# Altium schematic symbol library MCU_Microchip_PIC18.SchLib: 173 symbols (part 1 of 4)
Pins are listed as number, name and electrical type; pins without a type are passive.

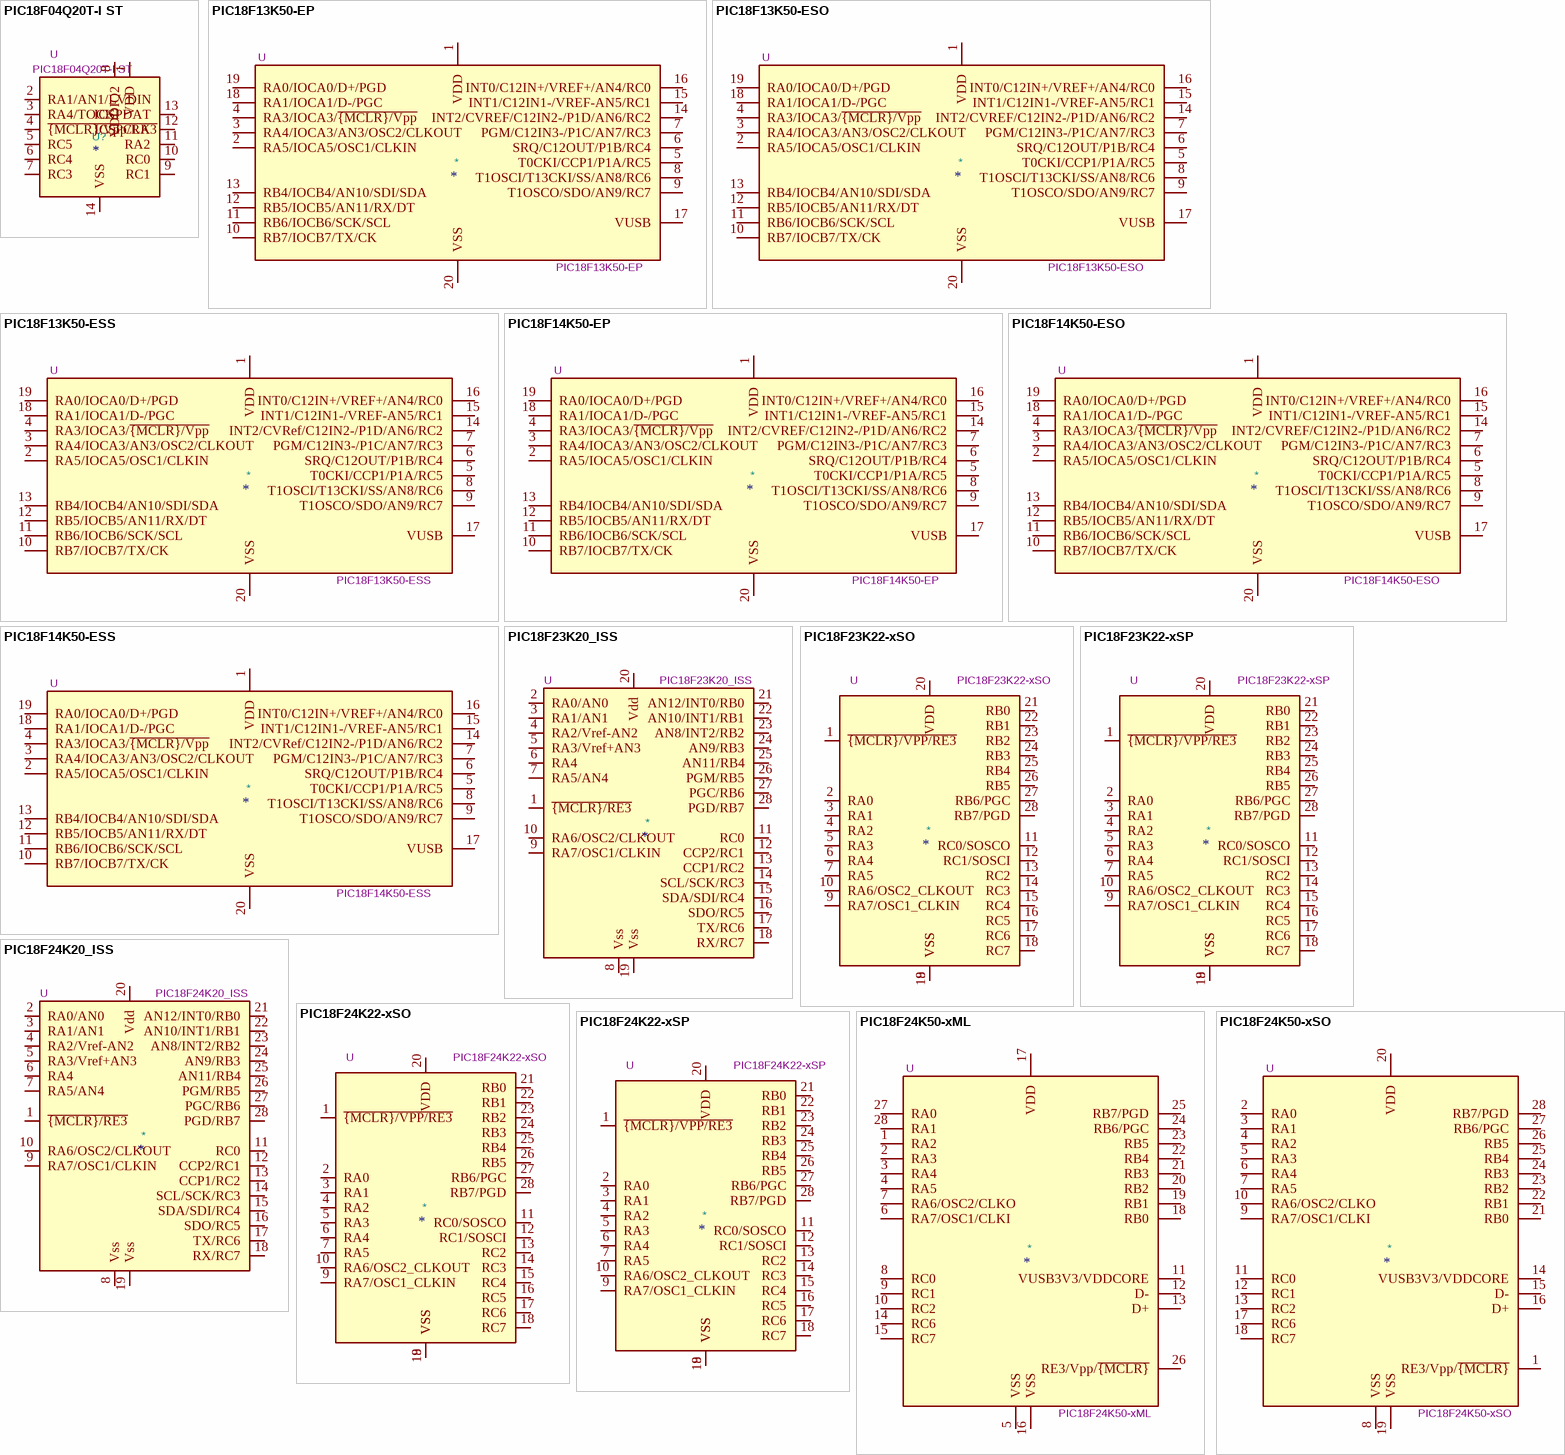
[diagram p0: symbols PIC18F04Q20T-I ST to PIC18F24K50-xSO]

## PIC18F04Q20T-I ST
designator U?  value PIC18F04Q20T-I ST  Reference: U
18-Pin Flash Microcontroller 4K Flash 256byte RAM; Manufacturer: Microchip; Manufacturer Lifecycle Status: REL; Manufacturer Part Number: PIC18F04Q20T-I/ST; ki_keywords: RAM ADC UART PWM; ki_fp_filters: SOIC*W*7.5x11.6mm*P1.27mm*; Memory Size: 16kB; Datasheet: http://ww1.microchip.com/downloads/en/DeviceDoc/39605F.pdf; Description_: 18-Pin Flash Microcontroller 4K Flash 256byte RAM; Case/Package: TSSOP; Category: Microcontrollers; Country of Assembly: Thailand; Country of Fabrication: United States of America; Country of Origin: Thailand; Export Control Classification Number (ECCN) Code: 3A991.a.2; Harmonized Tariff Schedule (HTS) Code: 8542.31.0015; HS Code: 8542.31.0015; Introduction Date: 2024-05-30; Lifecycle Status: Production; Memory Type: FLASH; Number of Pins: 14; Projected EOL Date: 2049-05-30; Supplier 1: Mouser; Supplier Part Number 1: 579-PIC18F04Q20T-IST; Supplier Packaging 1: Tape & Reel; Supplier Unit Price 1: $0.95; Supplier Location 1: US
footprint TSSOP-14_4.4x5mm_P0.65mm
pins: 1 VDD, 2 RA1/AN1/LVDIN, 3 RA4/TOCKI, 4 ~{{MCLR}/Vpp/RA3}, 5 RC5, 6 RC4, 7 RC3, 8 VDDIO2, 9 RC1, 10 RC0, 11 RA2, 12 ICSPCLK, 13 ICSPDAT, 14 VSS

## PIC18F13K50-EP
designator *  value PIC18F13K50-EP  Reference: U
8K Flash, 512 SRAM, 256 EEPROM, USB, nanoWatt XLP, DIP20; ki_keywords: Flash-Based 8bit CMOS Microcontroller XLP; ki_fp_filters: DIP*W7.62mm* PDIP*W7.62mm*; Footprint: Package_DIP:DIP-20_W7.62mm; Datasheet: http://ww1.microchip.com/downloads/en/devicedoc/41350c.pdf; Description_: 8K Flash, 512 SRAM, 256 EEPROM, USB, nanoWatt XLP, DIP20
pins: 1 VDD, 2 RA5/IOCA5/OSC1/CLKIN, 3 RA4/IOCA3/AN3/OSC2/CLKOUT, 4 RA3/IOCA3/~{{MCLR}/Vpp}, 5 T0CKI/CCP1/P1A/RC5, 6 SRQ/C12OUT/P1B/RC4, 7 PGM/C12IN3-/P1C/AN7/RC3, 8 T1OSCI/T13CKI/SS/AN8/RC6, 9 T1OSCO/SDO/AN9/RC7, 10 RB7/IOCB7/TX/CK, 11 RB6/IOCB6/SCK/SCL, 12 RB5/IOCB5/AN11/RX/DT, 13 RB4/IOCB4/AN10/SDI/SDA, 14 INT2/CVREF/C12IN2-/P1D/AN6/RC2, 15 INT1/C12IN1-/VREF-AN5/RC1, 16 INT0/C12IN+/VREF+/AN4/RC0, 17 VUSB, 18 RA1/IOCA1/D-/PGC, 19 RA0/IOCA0/D+/PGD, 20 VSS

## PIC18F13K50-ESO
designator *  value PIC18F13K50-ESO  Reference: U
8K Flash, 512 SRAM, 256 EEPROM, USB, nanoWatt XLP, SOIC20; ki_keywords: Flash-Based 8bit CMOS Microcontroller XLP; ki_fp_filters: SOIC*W*7.5x12.8mm*P1.27mm*; Footprint: Package_SO:SOIC-20W_7.5x12.8mm_P1.27mm; Datasheet: http://ww1.microchip.com/downloads/en/devicedoc/41350c.pdf; Description_: 8K Flash, 512 SRAM, 256 EEPROM, USB, nanoWatt XLP, SOIC20
pins: 1 VDD, 2 RA5/IOCA5/OSC1/CLKIN, 3 RA4/IOCA3/AN3/OSC2/CLKOUT, 4 RA3/IOCA3/~{{MCLR}/Vpp}, 5 T0CKI/CCP1/P1A/RC5, 6 SRQ/C12OUT/P1B/RC4, 7 PGM/C12IN3-/P1C/AN7/RC3, 8 T1OSCI/T13CKI/SS/AN8/RC6, 9 T1OSCO/SDO/AN9/RC7, 10 RB7/IOCB7/TX/CK, 11 RB6/IOCB6/SCK/SCL, 12 RB5/IOCB5/AN11/RX/DT, 13 RB4/IOCB4/AN10/SDI/SDA, 14 INT2/CVREF/C12IN2-/P1D/AN6/RC2, 15 INT1/C12IN1-/VREF-AN5/RC1, 16 INT0/C12IN+/VREF+/AN4/RC0, 17 VUSB, 18 RA1/IOCA1/D-/PGC, 19 RA0/IOCA0/D+/PGD, 20 VSS

## PIC18F13K50-ESS
designator *  value PIC18F13K50-ESS  Reference: U
8K Flash, 512 SRAM, 256 EEPROM, USB, nanoWatt XLP, SSOP20; ki_keywords: Flash-Based 8bit CMOS Microcontroller XLP; ki_fp_filters: SSOP*5.3x7.2mm*P0.65mm*; Footprint: Package_SO:SSOP-20_5.3x7.2mm_P0.65mm; Datasheet: http://ww1.microchip.com/downloads/en/devicedoc/41350c.pdf; Description_: 8K Flash, 512 SRAM, 256 EEPROM, USB, nanoWatt XLP, SSOP20
pins: 1 VDD, 2 RA5/IOCA5/OSC1/CLKIN, 3 RA4/IOCA3/AN3/OSC2/CLKOUT, 4 RA3/IOCA3/~{{MCLR}/Vpp}, 5 T0CKI/CCP1/P1A/RC5, 6 SRQ/C12OUT/P1B/RC4, 7 PGM/C12IN3-/P1C/AN7/RC3, 8 T1OSCI/T13CKI/SS/AN8/RC6, 9 T1OSCO/SDO/AN9/RC7, 10 RB7/IOCB7/TX/CK, 11 RB6/IOCB6/SCK/SCL, 12 RB5/IOCB5/AN11/RX/DT, 13 RB4/IOCB4/AN10/SDI/SDA, 14 INT2/CVRef/C12IN2-/P1D/AN6/RC2, 15 INT1/C12IN1-/VREF-AN5/RC1, 16 INT0/C12IN+/VREF+/AN4/RC0, 17 VUSB, 18 RA1/IOCA1/D-/PGC, 19 RA0/IOCA0/D+/PGD, 20 VSS

## PIC18F14K50-EP
designator *  value PIC18F14K50-EP  Reference: U
16K Flash, 768 SRAM, 256 EEPROM, USB, nanoWatt XLP, DIP20; ki_keywords: Flash-Based 8bit CMOS Microcontroller XLP; ki_fp_filters: DIP*W7.62mm* PDIP*W7.62mm*; Footprint: Package_DIP:DIP-20_W7.62mm; Datasheet: http://ww1.microchip.com/downloads/en/devicedoc/41350c.pdf; Description_: 16K Flash, 768 SRAM, 256 EEPROM, USB, nanoWatt XLP, DIP20
pins: 1 VDD, 2 RA5/IOCA5/OSC1/CLKIN, 3 RA4/IOCA3/AN3/OSC2/CLKOUT, 4 RA3/IOCA3/~{{MCLR}/Vpp}, 5 T0CKI/CCP1/P1A/RC5, 6 SRQ/C12OUT/P1B/RC4, 7 PGM/C12IN3-/P1C/AN7/RC3, 8 T1OSCI/T13CKI/SS/AN8/RC6, 9 T1OSCO/SDO/AN9/RC7, 10 RB7/IOCB7/TX/CK, 11 RB6/IOCB6/SCK/SCL, 12 RB5/IOCB5/AN11/RX/DT, 13 RB4/IOCB4/AN10/SDI/SDA, 14 INT2/CVREF/C12IN2-/P1D/AN6/RC2, 15 INT1/C12IN1-/VREF-AN5/RC1, 16 INT0/C12IN+/VREF+/AN4/RC0, 17 VUSB, 18 RA1/IOCA1/D-/PGC, 19 RA0/IOCA0/D+/PGD, 20 VSS

## PIC18F14K50-ESO
designator *  value PIC18F14K50-ESO  Reference: U
16K Flash, 768 SRAM, 256 EEPROM, USB, nanoWatt XLP, SOIC20; ki_keywords: Flash-Based 8bit CMOS Microcontroller XLP; ki_fp_filters: SOIC*W*7.5x12.8mm*P1.27mm*; Footprint: Package_SO:SOIC-20W_7.5x12.8mm_P1.27mm; Datasheet: http://ww1.microchip.com/downloads/en/devicedoc/41350c.pdf; Description_: 16K Flash, 768 SRAM, 256 EEPROM, USB, nanoWatt XLP, SOIC20
pins: 1 VDD, 2 RA5/IOCA5/OSC1/CLKIN, 3 RA4/IOCA3/AN3/OSC2/CLKOUT, 4 RA3/IOCA3/~{{MCLR}/Vpp}, 5 T0CKI/CCP1/P1A/RC5, 6 SRQ/C12OUT/P1B/RC4, 7 PGM/C12IN3-/P1C/AN7/RC3, 8 T1OSCI/T13CKI/SS/AN8/RC6, 9 T1OSCO/SDO/AN9/RC7, 10 RB7/IOCB7/TX/CK, 11 RB6/IOCB6/SCK/SCL, 12 RB5/IOCB5/AN11/RX/DT, 13 RB4/IOCB4/AN10/SDI/SDA, 14 INT2/CVREF/C12IN2-/P1D/AN6/RC2, 15 INT1/C12IN1-/VREF-AN5/RC1, 16 INT0/C12IN+/VREF+/AN4/RC0, 17 VUSB, 18 RA1/IOCA1/D-/PGC, 19 RA0/IOCA0/D+/PGD, 20 VSS

## PIC18F14K50-ESS
designator *  value PIC18F14K50-ESS  Reference: U
16K Flash, 768 SRAM, 256 EEPROM, USB, nanoWatt XLP, SSOP20; ki_keywords: Flash-Based 8bit CMOS Microcontroller XLP; ki_fp_filters: SSOP*5.3x7.2mm*P0.65mm*; Footprint: Package_SO:SSOP-20_5.3x7.2mm_P0.65mm; Datasheet: http://ww1.microchip.com/downloads/en/devicedoc/41350c.pdf; Description_: 16K Flash, 768 SRAM, 256 EEPROM, USB, nanoWatt XLP, SSOP20
pins: 1 VDD, 2 RA5/IOCA5/OSC1/CLKIN, 3 RA4/IOCA3/AN3/OSC2/CLKOUT, 4 RA3/IOCA3/~{{MCLR}/Vpp}, 5 T0CKI/CCP1/P1A/RC5, 6 SRQ/C12OUT/P1B/RC4, 7 PGM/C12IN3-/P1C/AN7/RC3, 8 T1OSCI/T13CKI/SS/AN8/RC6, 9 T1OSCO/SDO/AN9/RC7, 10 RB7/IOCB7/TX/CK, 11 RB6/IOCB6/SCK/SCL, 12 RB5/IOCB5/AN11/RX/DT, 13 RB4/IOCB4/AN10/SDI/SDA, 14 INT2/CVRef/C12IN2-/P1D/AN6/RC2, 15 INT1/C12IN1-/VREF-AN5/RC1, 16 INT0/C12IN+/VREF+/AN4/RC0, 17 VUSB, 18 RA1/IOCA1/D-/PGC, 19 RA0/IOCA0/D+/PGD, 20 VSS

## PIC18F23K20_ISS
designator *  value PIC18F23K20_ISS  Reference: U
8K Flash, 512Byte RAM, 256Byte EEPROM, PIC18 Microcontroller ADC PWM SPI I2C USART in SSOP28 package; ki_keywords: microcontroller PIC18F flash XLP; ki_fp_filters: SSOP*5.3x10.2mm*P0.65mm*; Footprint: Package_SO:SSOP-28_5.3x10.2mm_P0.65mm; Datasheet: http://ww1.microchip.com/downloads/en/DeviceDoc/40001303H.pdf; Description_: 8K Flash, 512Byte RAM, 256Byte EEPROM, PIC18 Microcontroller ADC PWM SPI I2C USART in SSOP28 package
pins: 1 ~{{MCLR}/RE3}, 2 RA0/AN0, 3 RA1/AN1, 4 RA2/Vref-AN2, 5 RA3/Vref+AN3, 6 RA4, 7 RA5/AN4, 8 Vss, 9 RA7/OSC1/CLKIN, 10 RA6/OSC2/CLKOUT, 11 RC0, 12 CCP2/RC1, 13 CCP1/RC2, 14 SCL/SCK/RC3, 15 SDA/SDI/RC4, 16 SDO/RC5, 17 TX/RC6, 18 RX/RC7, 19 Vss, 20 Vdd, 21 AN12/INT0/RB0, 22 AN10/INT1/RB1, 23 AN8/INT2/RB2, 24 AN9/RB3, 25 AN11/RB4, 26 PGM/RB5, 27 PGC/RB6, 28 PGD/RB7

## PIC18F23K22-xSO
designator *  value PIC18F23K22-xSO  Reference: U
8K Flash, 512B SRAM, 256B EEPROM, nanoWatt XLP, 2.3V to 5.5V, SOIC28; ki_keywords: Flash-Based 8-Bit Microcontroller XLP; ki_fp_filters: SO*W*7.5x17.9mm*P1.27mm*; Footprint: Package_SO:SOIC-28W_7.5x17.9mm_P1.27mm; Datasheet: http://ww1.microchip.com/downloads/en/DeviceDoc/40001412G.pdf; Description_: 8K Flash, 512B SRAM, 256B EEPROM, nanoWatt XLP, 2.3V to 5.5V, SOIC28
pins: 1 ~{{MCLR}/VPP/RE3}, 2 RA0, 3 RA1, 4 RA2, 5 RA3, 6 RA4, 7 RA5, 8 VSS, 9 RA7/OSC1_CLKIN, 10 RA6/OSC2_CLKOUT, 11 RC0/SOSCO, 12 RC1/SOSCI, 13 RC2, 14 RC3, 15 RC4, 16 RC5, 17 RC6, 18 RC7, 19 VSS, 20 VDD, 21 RB0, 22 RB1, 23 RB2, 24 RB3, 25 RB4, 26 RB5, 27 RB6/PGC, 28 RB7/PGD

## PIC18F23K22-xSP
designator *  value PIC18F23K22-xSP  Reference: U
8K Flash, 512B SRAM, 256B EEPROM, nanoWatt XLP, 2.3V to 5.5V, SPDIP28; ki_keywords: Flash-Based 8-Bit Microcontroller XLP; ki_fp_filters: DIP*W7.62mm*; Footprint: Package_DIP:DIP-28_W7.62mm; Datasheet: http://ww1.microchip.com/downloads/en/DeviceDoc/40001412G.pdf; Description_: 8K Flash, 512B SRAM, 256B EEPROM, nanoWatt XLP, 2.3V to 5.5V, SPDIP28
pins: 1 ~{{MCLR}/VPP/RE3}, 2 RA0, 3 RA1, 4 RA2, 5 RA3, 6 RA4, 7 RA5, 8 VSS, 9 RA7/OSC1_CLKIN, 10 RA6/OSC2_CLKOUT, 11 RC0/SOSCO, 12 RC1/SOSCI, 13 RC2, 14 RC3, 15 RC4, 16 RC5, 17 RC6, 18 RC7, 19 VSS, 20 VDD, 21 RB0, 22 RB1, 23 RB2, 24 RB3, 25 RB4, 26 RB5, 27 RB6/PGC, 28 RB7/PGD

## PIC18F24K20_ISS
designator *  value PIC18F24K20_ISS  Reference: U
16K Flash, 768Byte RAM, 256Byte EEPROM, PIC18 Microcontroller ADC PWM SPI I2C USART in SSOP28 package; ki_keywords: microcontroller PIC18F flash XLP; ki_fp_filters: SSOP*5.3x10.2mm*P0.65mm*; Footprint: Package_SO:SSOP-28_5.3x10.2mm_P0.65mm; Datasheet: http://ww1.microchip.com/downloads/en/DeviceDoc/40001303H.pdf; Description_: 16K Flash, 768Byte RAM, 256Byte EEPROM, PIC18 Microcontroller ADC PWM SPI I2C USART in SSOP28 package
pins: 1 ~{{MCLR}/RE3}, 2 RA0/AN0, 3 RA1/AN1, 4 RA2/Vref-AN2, 5 RA3/Vref+AN3, 6 RA4, 7 RA5/AN4, 8 Vss, 9 RA7/OSC1/CLKIN, 10 RA6/OSC2/CLKOUT, 11 RC0, 12 CCP2/RC1, 13 CCP1/RC2, 14 SCL/SCK/RC3, 15 SDA/SDI/RC4, 16 SDO/RC5, 17 TX/RC6, 18 RX/RC7, 19 Vss, 20 Vdd, 21 AN12/INT0/RB0, 22 AN10/INT1/RB1, 23 AN8/INT2/RB2, 24 AN9/RB3, 25 AN11/RB4, 26 PGM/RB5, 27 PGC/RB6, 28 PGD/RB7

## PIC18F24K22-xSO
designator *  value PIC18F24K22-xSO  Reference: U
16K Flash, 768B SRAM, 256B EEPROM, nanoWatt XLP, 2.3V to 5.5V, SOIC28; ki_keywords: Flash-Based 8-Bit Microcontroller XLP; ki_fp_filters: SO*W*7.5x17.9mm*P1.27mm*; Footprint: Package_SO:SOIC-28W_7.5x17.9mm_P1.27mm; Datasheet: http://ww1.microchip.com/downloads/en/DeviceDoc/40001412G.pdf; Description_: 16K Flash, 768B SRAM, 256B EEPROM, nanoWatt XLP, 2.3V to 5.5V, SOIC28
pins: 1 ~{{MCLR}/VPP/RE3}, 2 RA0, 3 RA1, 4 RA2, 5 RA3, 6 RA4, 7 RA5, 8 VSS, 9 RA7/OSC1_CLKIN, 10 RA6/OSC2_CLKOUT, 11 RC0/SOSCO, 12 RC1/SOSCI, 13 RC2, 14 RC3, 15 RC4, 16 RC5, 17 RC6, 18 RC7, 19 VSS, 20 VDD, 21 RB0, 22 RB1, 23 RB2, 24 RB3, 25 RB4, 26 RB5, 27 RB6/PGC, 28 RB7/PGD

## PIC18F24K22-xSP
designator *  value PIC18F24K22-xSP  Reference: U
16K Flash, 768B SRAM, 256B EEPROM, nanoWatt XLP, 2.3V to 5.5V, SPDIP28; ki_keywords: Flash-Based 8-Bit Microcontroller XLP; ki_fp_filters: DIP*W7.62mm*; Footprint: Package_DIP:DIP-28_W7.62mm; Datasheet: http://ww1.microchip.com/downloads/en/DeviceDoc/40001412G.pdf; Description_: 16K Flash, 768B SRAM, 256B EEPROM, nanoWatt XLP, 2.3V to 5.5V, SPDIP28
pins: 1 ~{{MCLR}/VPP/RE3}, 2 RA0, 3 RA1, 4 RA2, 5 RA3, 6 RA4, 7 RA5, 8 VSS, 9 RA7/OSC1_CLKIN, 10 RA6/OSC2_CLKOUT, 11 RC0/SOSCO, 12 RC1/SOSCI, 13 RC2, 14 RC3, 15 RC4, 16 RC5, 17 RC6, 18 RC7, 19 VSS, 20 VDD, 21 RB0, 22 RB1, 23 RB2, 24 RB3, 25 RB4, 26 RB5, 27 RB6/PGC, 28 RB7/PGD

## PIC18F24K50-xML
designator *  value PIC18F24K50-xML  Reference: U
16K Flash, 2K SRAM, 256 EEPROM, USB, nanoWatt XLP, 2.3V to 5.5V, QFN28; ki_keywords: Flash-Based 8-Bit Microcontroller XLP; ki_fp_filters: QFN*1EP*6x6mm*P0.65mm*; Footprint: Package_DFN_QFN:QFN-28-1EP_6x6mm_P0.65mm_EP4.25x4.25mm; Datasheet: http://ww1.microchip.com/downloads/en/devicedoc/30000684B.pdf; Description_: 16K Flash, 2K SRAM, 256 EEPROM, USB, nanoWatt XLP, 2.3V to 5.5V, QFN28
pins: 1 RA2, 2 RA3, 3 RA4, 4 RA5, 5 VSS, 6 RA7/OSC1/CLKI, 7 RA6/OSC2/CLKO, 8 RC0, 9 RC1, 10 RC2, 11 VUSB3V3/VDDCORE, 12 D-, 13 D+, 14 RC6, 15 RC7, 16 VSS, 17 VDD, 18 RB0, 19 RB1, 20 RB2, 21 RB3, 22 RB4, 23 RB5, 24 RB6/PGC, 25 RB7/PGD, 26 RE3/Vpp/~{{MCLR}}, 27 RA0, 28 RA1

## PIC18F24K50-xSO
designator *  value PIC18F24K50-xSO  Reference: U
16K Flash, 2K SRAM, 256 EEPROM, USB, nanoWatt XLP, 2.3V to 5.5V, SOIC28; ki_keywords: Flash-Based 8-Bit Microcontroller XLP; ki_fp_filters: SO*W*7.5x17.9mm*P1.27mm*; Footprint: Package_SO:SOIC-28W_7.5x17.9mm_P1.27mm; Datasheet: http://ww1.microchip.com/downloads/en/devicedoc/30000684B.pdf; Description_: 16K Flash, 2K SRAM, 256 EEPROM, USB, nanoWatt XLP, 2.3V to 5.5V, SOIC28
pins: 1 RE3/Vpp/~{{MCLR}}, 2 RA0, 3 RA1, 4 RA2, 5 RA3, 6 RA4, 7 RA5, 8 VSS, 9 RA7/OSC1/CLKI, 10 RA6/OSC2/CLKO, 11 RC0, 12 RC1, 13 RC2, 14 VUSB3V3/VDDCORE, 15 D-, 16 D+, 17 RC6, 18 RC7, 19 VSS, 20 VDD, 21 RB0, 22 RB1, 23 RB2, 24 RB3, 25 RB4, 26 RB5, 27 RB6/PGC, 28 RB7/PGD

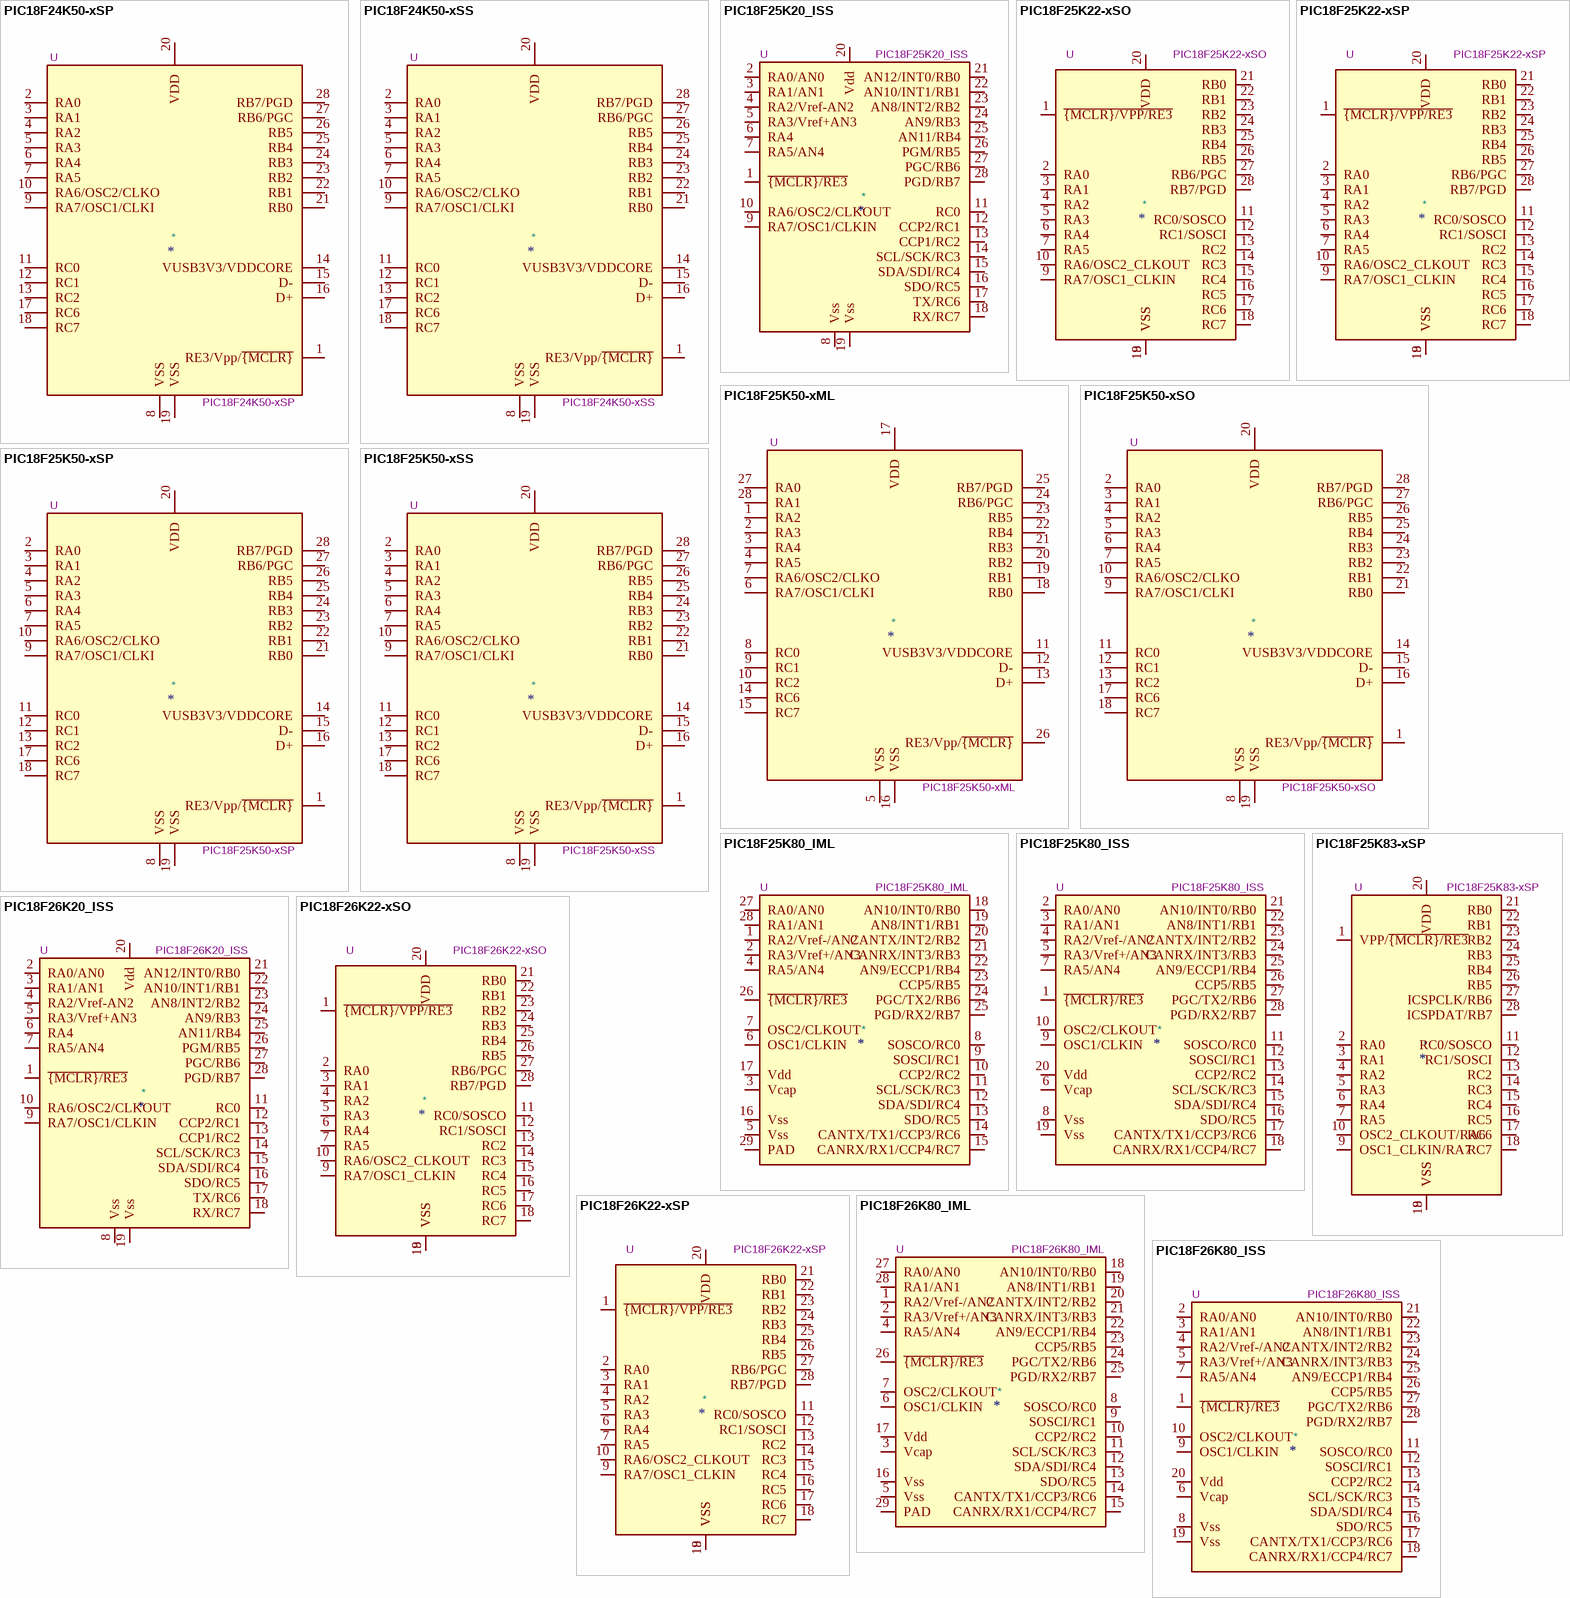
[diagram p1: symbols PIC18F24K50-xSP to PIC18F26K80_ISS]

## PIC18F24K50-xSP
designator *  value PIC18F24K50-xSP  Reference: U
16K Flash, 2K SRAM, 256 EEPROM, USB, nanoWatt XLP, 2.3V to 5.5V, SPDIP28; ki_keywords: Flash-Based 8-Bit Microcontroller XLP; ki_fp_filters: SPDIP*W7.62mm* DIP*W7.62mm* PDIP*W7.62mm*; Footprint: Package_DIP:DIP-28_W7.62mm; Datasheet: http://ww1.microchip.com/downloads/en/devicedoc/30000684B.pdf; Description_: 16K Flash, 2K SRAM, 256 EEPROM, USB, nanoWatt XLP, 2.3V to 5.5V, SPDIP28
pins: 1 RE3/Vpp/~{{MCLR}}, 2 RA0, 3 RA1, 4 RA2, 5 RA3, 6 RA4, 7 RA5, 8 VSS, 9 RA7/OSC1/CLKI, 10 RA6/OSC2/CLKO, 11 RC0, 12 RC1, 13 RC2, 14 VUSB3V3/VDDCORE, 15 D-, 16 D+, 17 RC6, 18 RC7, 19 VSS, 20 VDD, 21 RB0, 22 RB1, 23 RB2, 24 RB3, 25 RB4, 26 RB5, 27 RB6/PGC, 28 RB7/PGD

## PIC18F24K50-xSS
designator *  value PIC18F24K50-xSS  Reference: U
16K Flash, 2K SRAM, 256 EEPROM, USB, nanoWatt XLP, 2.3V to 5.5V, SSOP28; ki_keywords: Flash-Based 8-Bit Microcontroller XLP; ki_fp_filters: SSOP*5.3x10.2mm*P0.65mm*; Footprint: Package_SO:SSOP-28_5.3x10.2mm_P0.65mm; Datasheet: http://ww1.microchip.com/downloads/en/devicedoc/30000684B.pdf; Description_: 16K Flash, 2K SRAM, 256 EEPROM, USB, nanoWatt XLP, 2.3V to 5.5V, SSOP28
pins: 1 RE3/Vpp/~{{MCLR}}, 2 RA0, 3 RA1, 4 RA2, 5 RA3, 6 RA4, 7 RA5, 8 VSS, 9 RA7/OSC1/CLKI, 10 RA6/OSC2/CLKO, 11 RC0, 12 RC1, 13 RC2, 14 VUSB3V3/VDDCORE, 15 D-, 16 D+, 17 RC6, 18 RC7, 19 VSS, 20 VDD, 21 RB0, 22 RB1, 23 RB2, 24 RB3, 25 RB4, 26 RB5, 27 RB6/PGC, 28 RB7/PGD

## PIC18F25K20_ISS
designator *  value PIC18F25K20_ISS  Reference: U
32K Flash, 1536Byte RAM, 256Byte EEPROM, PIC18 Microcontroller ADC PWM SPI I2C USART in SSOP28 package; ki_keywords: microcontroller PIC18F flash XLP; ki_fp_filters: SSOP*5.3x10.2mm*P0.65mm*; Footprint: Package_SO:SSOP-28_5.3x10.2mm_P0.65mm; Datasheet: http://ww1.microchip.com/downloads/en/DeviceDoc/40001303H.pdf; Description_: 32K Flash, 1536Byte RAM, 256Byte EEPROM, PIC18 Microcontroller ADC PWM SPI I2C USART in SSOP28 package
pins: 1 ~{{MCLR}/RE3}, 2 RA0/AN0, 3 RA1/AN1, 4 RA2/Vref-AN2, 5 RA3/Vref+AN3, 6 RA4, 7 RA5/AN4, 8 Vss, 9 RA7/OSC1/CLKIN, 10 RA6/OSC2/CLKOUT, 11 RC0, 12 CCP2/RC1, 13 CCP1/RC2, 14 SCL/SCK/RC3, 15 SDA/SDI/RC4, 16 SDO/RC5, 17 TX/RC6, 18 RX/RC7, 19 Vss, 20 Vdd, 21 AN12/INT0/RB0, 22 AN10/INT1/RB1, 23 AN8/INT2/RB2, 24 AN9/RB3, 25 AN11/RB4, 26 PGM/RB5, 27 PGC/RB6, 28 PGD/RB7

## PIC18F25K22-xSO
designator *  value PIC18F25K22-xSO  Reference: U
32K Flash, 1536B SRAM, 256B EEPROM, nanoWatt XLP, 2.3V to 5.5V, SOIC28; ki_keywords: Flash-Based 8-Bit Microcontroller XLP; ki_fp_filters: SO*W*7.5x17.9mm*P1.27mm*; Footprint: Package_SO:SOIC-28W_7.5x17.9mm_P1.27mm; Datasheet: http://ww1.microchip.com/downloads/en/DeviceDoc/40001412G.pdf; Description_: 32K Flash, 1536B SRAM, 256B EEPROM, nanoWatt XLP, 2.3V to 5.5V, SOIC28
pins: 1 ~{{MCLR}/VPP/RE3}, 2 RA0, 3 RA1, 4 RA2, 5 RA3, 6 RA4, 7 RA5, 8 VSS, 9 RA7/OSC1_CLKIN, 10 RA6/OSC2_CLKOUT, 11 RC0/SOSCO, 12 RC1/SOSCI, 13 RC2, 14 RC3, 15 RC4, 16 RC5, 17 RC6, 18 RC7, 19 VSS, 20 VDD, 21 RB0, 22 RB1, 23 RB2, 24 RB3, 25 RB4, 26 RB5, 27 RB6/PGC, 28 RB7/PGD

## PIC18F25K22-xSP
designator *  value PIC18F25K22-xSP  Reference: U
32K Flash, 1536B SRAM, 256B EEPROM, nanoWatt XLP, 2.3V to 5.5V, SPDIP28; ki_keywords: Flash-Based 8-Bit Microcontroller XLP; ki_fp_filters: DIP*W7.62mm*; Footprint: Package_DIP:DIP-28_W7.62mm; Datasheet: http://ww1.microchip.com/downloads/en/DeviceDoc/40001412G.pdf; Description_: 32K Flash, 1536B SRAM, 256B EEPROM, nanoWatt XLP, 2.3V to 5.5V, SPDIP28
pins: 1 ~{{MCLR}/VPP/RE3}, 2 RA0, 3 RA1, 4 RA2, 5 RA3, 6 RA4, 7 RA5, 8 VSS, 9 RA7/OSC1_CLKIN, 10 RA6/OSC2_CLKOUT, 11 RC0/SOSCO, 12 RC1/SOSCI, 13 RC2, 14 RC3, 15 RC4, 16 RC5, 17 RC6, 18 RC7, 19 VSS, 20 VDD, 21 RB0, 22 RB1, 23 RB2, 24 RB3, 25 RB4, 26 RB5, 27 RB6/PGC, 28 RB7/PGD

## PIC18F25K50-xML
designator *  value PIC18F25K50-xML  Reference: U
32K Flash, 2K SRAM, 256 EEPROM, USB, nanoWatt XLP, 2.3V to 5.5V, QFN28; ki_keywords: Flash-Based 8-Bit Microcontroller XLP; ki_fp_filters: QFN*1EP*6x6mm*P0.65mm*; Footprint: Package_DFN_QFN:QFN-28-1EP_6x6mm_P0.65mm_EP4.25x4.25mm; Datasheet: http://ww1.microchip.com/downloads/en/devicedoc/30000684B.pdf; Description_: 32K Flash, 2K SRAM, 256 EEPROM, USB, nanoWatt XLP, 2.3V to 5.5V, QFN28
pins: 1 RA2, 2 RA3, 3 RA4, 4 RA5, 5 VSS, 6 RA7/OSC1/CLKI, 7 RA6/OSC2/CLKO, 8 RC0, 9 RC1, 10 RC2, 11 VUSB3V3/VDDCORE, 12 D-, 13 D+, 14 RC6, 15 RC7, 16 VSS, 17 VDD, 18 RB0, 19 RB1, 20 RB2, 21 RB3, 22 RB4, 23 RB5, 24 RB6/PGC, 25 RB7/PGD, 26 RE3/Vpp/~{{MCLR}}, 27 RA0, 28 RA1

## PIC18F25K50-xSO
designator *  value PIC18F25K50-xSO  Reference: U
32K Flash, 2K SRAM, 256 EEPROM, USB, nanoWatt XLP, 2.3V to 5.5V, SOIC28; ki_keywords: Flash-Based 8-Bit Microcontroller XLP; ki_fp_filters: SO*W*7.5x17.9mm*P1.27mm*; Footprint: Package_SO:SOIC-28W_7.5x17.9mm_P1.27mm; Datasheet: http://ww1.microchip.com/downloads/en/devicedoc/30000684B.pdf; Description_: 32K Flash, 2K SRAM, 256 EEPROM, USB, nanoWatt XLP, 2.3V to 5.5V, SOIC28
pins: 1 RE3/Vpp/~{{MCLR}}, 2 RA0, 3 RA1, 4 RA2, 5 RA3, 6 RA4, 7 RA5, 8 VSS, 9 RA7/OSC1/CLKI, 10 RA6/OSC2/CLKO, 11 RC0, 12 RC1, 13 RC2, 14 VUSB3V3/VDDCORE, 15 D-, 16 D+, 17 RC6, 18 RC7, 19 VSS, 20 VDD, 21 RB0, 22 RB1, 23 RB2, 24 RB3, 25 RB4, 26 RB5, 27 RB6/PGC, 28 RB7/PGD

## PIC18F25K50-xSP
designator *  value PIC18F25K50-xSP  Reference: U
32K Flash, 2K SRAM, 256 EEPROM, USB, nanoWatt XLP, 2.3V to 5.5V, SPDIP28; ki_keywords: Flash-Based 8-Bit Microcontroller XLP; ki_fp_filters: SPDIP*W7.62mm* DIP*W7.62mm* PDIP*W7.62mm*; Footprint: Package_DIP:DIP-28_W7.62mm; Datasheet: http://ww1.microchip.com/downloads/en/devicedoc/30000684B.pdf; Description_: 32K Flash, 2K SRAM, 256 EEPROM, USB, nanoWatt XLP, 2.3V to 5.5V, SPDIP28
pins: 1 RE3/Vpp/~{{MCLR}}, 2 RA0, 3 RA1, 4 RA2, 5 RA3, 6 RA4, 7 RA5, 8 VSS, 9 RA7/OSC1/CLKI, 10 RA6/OSC2/CLKO, 11 RC0, 12 RC1, 13 RC2, 14 VUSB3V3/VDDCORE, 15 D-, 16 D+, 17 RC6, 18 RC7, 19 VSS, 20 VDD, 21 RB0, 22 RB1, 23 RB2, 24 RB3, 25 RB4, 26 RB5, 27 RB6/PGC, 28 RB7/PGD

## PIC18F25K50-xSS
designator *  value PIC18F25K50-xSS  Reference: U
32K Flash, 2K SRAM, 256 EEPROM, USB, nanoWatt XLP, 2.3V to 5.5V, SSOP28; ki_keywords: Flash-Based 8-Bit Microcontroller XLP; ki_fp_filters: SSOP*5.3x10.2mm*P0.65mm*; Footprint: Package_SO:SSOP-28_5.3x10.2mm_P0.65mm; Datasheet: http://ww1.microchip.com/downloads/en/devicedoc/30000684B.pdf; Description_: 32K Flash, 2K SRAM, 256 EEPROM, USB, nanoWatt XLP, 2.3V to 5.5V, SSOP28
pins: 1 RE3/Vpp/~{{MCLR}}, 2 RA0, 3 RA1, 4 RA2, 5 RA3, 6 RA4, 7 RA5, 8 VSS, 9 RA7/OSC1/CLKI, 10 RA6/OSC2/CLKO, 11 RC0, 12 RC1, 13 RC2, 14 VUSB3V3/VDDCORE, 15 D-, 16 D+, 17 RC6, 18 RC7, 19 VSS, 20 VDD, 21 RB0, 22 RB1, 23 RB2, 24 RB3, 25 RB4, 26 RB5, 27 RB6/PGC, 28 RB7/PGD

## PIC18F25K80_IML
designator *  value PIC18F25K80_IML  Reference: U
32K Flash, 3.5K RAM, 1K EEPROM PIC18 Microcontroller ADC PWM CAN SPI I2C USART in QFN28 package; ki_keywords: microcontroller PIC18 flash ECAN XLP nanoWatt; ki_fp_filters: QFN*1EP*6x6mm*P0.65mm*; Footprint: Package_DFN_QFN:QFN-28-1EP_6x6mm_P0.65mm_EP4.25x4.25mm; Datasheet: http://ww1.microchip.com/downloads/en/DeviceDoc/39977f.pdf; Description_: 32K Flash, 3.5K RAM, 1K EEPROM PIC18 Microcontroller ADC PWM CAN SPI I2C USART in QFN28 package
pins: 1 RA2/Vref-/AN2, 2 RA3/Vref+/AN3, 3 Vcap, 4 RA5/AN4, 5 Vss, 6 OSC1/CLKIN, 7 OSC2/CLKOUT, 8 SOSCO/RC0, 9 SOSCI/RC1, 10 CCP2/RC2, 11 SCL/SCK/RC3, 12 SDA/SDI/RC4, 13 SDO/RC5, 14 CANTX/TX1/CCP3/RC6, 15 CANRX/RX1/CCP4/RC7, 16 Vss, 17 Vdd, 18 AN10/INT0/RB0, 19 AN8/INT1/RB1, 20 CANTX/INT2/RB2, 21 CANRX/INT3/RB3, 22 AN9/ECCP1/RB4, 23 CCP5/RB5, 24 PGC/TX2/RB6, 25 PGD/RX2/RB7, 26 ~{{MCLR}/RE3}, 27 RA0/AN0, 28 RA1/AN1, 29 PAD

## PIC18F25K80_ISS
designator *  value PIC18F25K80_ISS  Reference: U
32K Flash, 3.5K RAM, 1K EEPROM, PIC18 Microcontroller ADC PWM CAN SPI I2C USART in SSOP28 package; ki_keywords: microcontroller PIC18 flash ECAN XLP nanoWatt; ki_fp_filters: SSOP*5.3x10.2mm*P0.65mm*; Footprint: Package_SO:SSOP-28_5.3x10.2mm_P0.65mm; Datasheet: http://ww1.microchip.com/downloads/en/DeviceDoc/39977f.pdf; Description_: 32K Flash, 3.5K RAM, 1K EEPROM, PIC18 Microcontroller ADC PWM CAN SPI I2C USART in SSOP28 package
pins: 1 ~{{MCLR}/RE3}, 2 RA0/AN0, 3 RA1/AN1, 4 RA2/Vref-/AN2, 5 RA3/Vref+/AN3, 6 Vcap, 7 RA5/AN4, 8 Vss, 9 OSC1/CLKIN, 10 OSC2/CLKOUT, 11 SOSCO/RC0, 12 SOSCI/RC1, 13 CCP2/RC2, 14 SCL/SCK/RC3, 15 SDA/SDI/RC4, 16 SDO/RC5, 17 CANTX/TX1/CCP3/RC6, 18 CANRX/RX1/CCP4/RC7, 19 Vss, 20 Vdd, 21 AN10/INT0/RB0, 22 AN8/INT1/RB1, 23 CANTX/INT2/RB2, 24 CANRX/INT3/RB3, 25 AN9/ECCP1/RB4, 26 CCP5/RB5, 27 PGC/TX2/RB6, 28 PGD/RX2/RB7

## PIC18F25K83-xSP
designator *  value PIC18F25K83-xSP  Reference: U
32K Flash, 2K RAM, 1K EEPROM, 2.3-5.5V, PIC18, low-power microcontroller with CAN, DIP-28; ki_keywords: microcontroller Microchip DMA WWDT DIA DCI XLP CLC CWG CCP NCO DSM CRC UART LIN DMX DALI SPI CAN I2C PPS SMT ADC2 CVD DAC; ki_fp_filters: DIP*W7.62mm*; Footprint: Package_DIP:DIP-28_W7.62mm; Datasheet: http://ww1.microchip.com/downloads/en/DeviceDoc/40001943A.pdf; Description_: 32K Flash, 2K RAM, 1K EEPROM, 2.3-5.5V, PIC18, low-power microcontroller with CAN, DIP-28
pins: 1 VPP/~{{MCLR}/RE3}, 2 RA0, 3 RA1, 4 RA2, 5 RA3, 6 RA4, 7 RA5, 8 VSS, 9 OSC1_CLKIN/RA7, 10 OSC2_CLKOUT/RA6, 11 RC0/SOSCO, 12 RC1/SOSCI, 13 RC2, 14 RC3, 15 RC4, 16 RC5, 17 RC6, 18 RC7, 19 VSS, 20 VDD, 21 RB0, 22 RB1, 23 RB2, 24 RB3, 25 RB4, 26 RB5, 27 ICSPCLK/RB6, 28 ICSPDAT/RB7

## PIC18F26K20_ISS
designator *  value PIC18F26K20_ISS  Reference: U
64K Flash, 3936Byte RAM, 1KByte EEPROM, PIC18 Microcontroller ADC PWM SPI I2C USART in SSOP28 package; ki_keywords: microcontroller PIC18F flash XLP; ki_fp_filters: SSOP*5.3x10.2mm*P0.65mm*; Footprint: Package_SO:SSOP-28_5.3x10.2mm_P0.65mm; Datasheet: http://ww1.microchip.com/downloads/en/DeviceDoc/40001303H.pdf; Description_: 64K Flash, 3936Byte RAM, 1KByte EEPROM, PIC18 Microcontroller ADC PWM SPI I2C USART in SSOP28 package
pins: 1 ~{{MCLR}/RE3}, 2 RA0/AN0, 3 RA1/AN1, 4 RA2/Vref-AN2, 5 RA3/Vref+AN3, 6 RA4, 7 RA5/AN4, 8 Vss, 9 RA7/OSC1/CLKIN, 10 RA6/OSC2/CLKOUT, 11 RC0, 12 CCP2/RC1, 13 CCP1/RC2, 14 SCL/SCK/RC3, 15 SDA/SDI/RC4, 16 SDO/RC5, 17 TX/RC6, 18 RX/RC7, 19 Vss, 20 Vdd, 21 AN12/INT0/RB0, 22 AN10/INT1/RB1, 23 AN8/INT2/RB2, 24 AN9/RB3, 25 AN11/RB4, 26 PGM/RB5, 27 PGC/RB6, 28 PGD/RB7

## PIC18F26K22-xSO
designator *  value PIC18F26K22-xSO  Reference: U
64K Flash, 3896B SRAM, 1024B EEPROM, nanoWatt XLP, 2.3V to 5.5V, SOIC28; ki_keywords: Flash-Based 8-Bit Microcontroller XLP; ki_fp_filters: SO*W*7.5x17.9mm*P1.27mm*; Footprint: Package_SO:SOIC-28W_7.5x17.9mm_P1.27mm; Datasheet: http://ww1.microchip.com/downloads/en/DeviceDoc/40001412G.pdf; Description_: 64K Flash, 3896B SRAM, 1024B EEPROM, nanoWatt XLP, 2.3V to 5.5V, SOIC28
pins: 1 ~{{MCLR}/VPP/RE3}, 2 RA0, 3 RA1, 4 RA2, 5 RA3, 6 RA4, 7 RA5, 8 VSS, 9 RA7/OSC1_CLKIN, 10 RA6/OSC2_CLKOUT, 11 RC0/SOSCO, 12 RC1/SOSCI, 13 RC2, 14 RC3, 15 RC4, 16 RC5, 17 RC6, 18 RC7, 19 VSS, 20 VDD, 21 RB0, 22 RB1, 23 RB2, 24 RB3, 25 RB4, 26 RB5, 27 RB6/PGC, 28 RB7/PGD

## PIC18F26K22-xSP
designator *  value PIC18F26K22-xSP  Reference: U
64K Flash, 3896B SRAM, 1024B EEPROM, nanoWatt XLP, 2.3V to 5.5V, SPDIP28; ki_keywords: Flash-Based 8-Bit Microcontroller XLP; ki_fp_filters: DIP*W7.62mm*; Footprint: Package_DIP:DIP-28_W7.62mm; Datasheet: http://ww1.microchip.com/downloads/en/DeviceDoc/40001412G.pdf; Description_: 64K Flash, 3896B SRAM, 1024B EEPROM, nanoWatt XLP, 2.3V to 5.5V, SPDIP28
pins: 1 ~{{MCLR}/VPP/RE3}, 2 RA0, 3 RA1, 4 RA2, 5 RA3, 6 RA4, 7 RA5, 8 VSS, 9 RA7/OSC1_CLKIN, 10 RA6/OSC2_CLKOUT, 11 RC0/SOSCO, 12 RC1/SOSCI, 13 RC2, 14 RC3, 15 RC4, 16 RC5, 17 RC6, 18 RC7, 19 VSS, 20 VDD, 21 RB0, 22 RB1, 23 RB2, 24 RB3, 25 RB4, 26 RB5, 27 RB6/PGC, 28 RB7/PGD

## PIC18F26K80_IML
designator *  value PIC18F26K80_IML  Reference: U
64K Flash, 3.5K RAM, 1K EEPROM PIC18 Microcontroller ADC PWM CAN SPI I2C USART in QFN28 package; ki_keywords: microcontroller PIC18 flash ECAN XLP nanoWatt; ki_fp_filters: QFN*1EP*6x6mm*P0.65mm*; Footprint: Package_DFN_QFN:QFN-28-1EP_6x6mm_P0.65mm_EP4.25x4.25mm; Datasheet: http://ww1.microchip.com/downloads/en/DeviceDoc/39977f.pdf; Description_: 64K Flash, 3.5K RAM, 1K EEPROM PIC18 Microcontroller ADC PWM CAN SPI I2C USART in QFN28 package
pins: 1 RA2/Vref-/AN2, 2 RA3/Vref+/AN3, 3 Vcap, 4 RA5/AN4, 5 Vss, 6 OSC1/CLKIN, 7 OSC2/CLKOUT, 8 SOSCO/RC0, 9 SOSCI/RC1, 10 CCP2/RC2, 11 SCL/SCK/RC3, 12 SDA/SDI/RC4, 13 SDO/RC5, 14 CANTX/TX1/CCP3/RC6, 15 CANRX/RX1/CCP4/RC7, 16 Vss, 17 Vdd, 18 AN10/INT0/RB0, 19 AN8/INT1/RB1, 20 CANTX/INT2/RB2, 21 CANRX/INT3/RB3, 22 AN9/ECCP1/RB4, 23 CCP5/RB5, 24 PGC/TX2/RB6, 25 PGD/RX2/RB7, 26 ~{{MCLR}/RE3}, 27 RA0/AN0, 28 RA1/AN1, 29 PAD

## PIC18F26K80_ISS
designator *  value PIC18F26K80_ISS  Reference: U
64K Flash, 3.5K RAM, 1K EEPROM PIC18 Microcontroller ADC PWM CAN SPI I2C USART in SSOP28 package; ki_keywords: microcontroller PIC18 flash ECAN XLP nanoWatt; ki_fp_filters: SSOP*5.3x10.2mm*P0.65mm*; Footprint: Package_SO:SSOP-28_5.3x10.2mm_P0.65mm; Datasheet: http://ww1.microchip.com/downloads/en/DeviceDoc/39977f.pdf; Description_: 64K Flash, 3.5K RAM, 1K EEPROM PIC18 Microcontroller ADC PWM CAN SPI I2C USART in SSOP28 package
pins: 1 ~{{MCLR}/RE3}, 2 RA0/AN0, 3 RA1/AN1, 4 RA2/Vref-/AN2, 5 RA3/Vref+/AN3, 6 Vcap, 7 RA5/AN4, 8 Vss, 9 OSC1/CLKIN, 10 OSC2/CLKOUT, 11 SOSCO/RC0, 12 SOSCI/RC1, 13 CCP2/RC2, 14 SCL/SCK/RC3, 15 SDA/SDI/RC4, 16 SDO/RC5, 17 CANTX/TX1/CCP3/RC6, 18 CANRX/RX1/CCP4/RC7, 19 Vss, 20 Vdd, 21 AN10/INT0/RB0, 22 AN8/INT1/RB1, 23 CANTX/INT2/RB2, 24 CANRX/INT3/RB3, 25 AN9/ECCP1/RB4, 26 CCP5/RB5, 27 PGC/TX2/RB6, 28 PGD/RX2/RB7

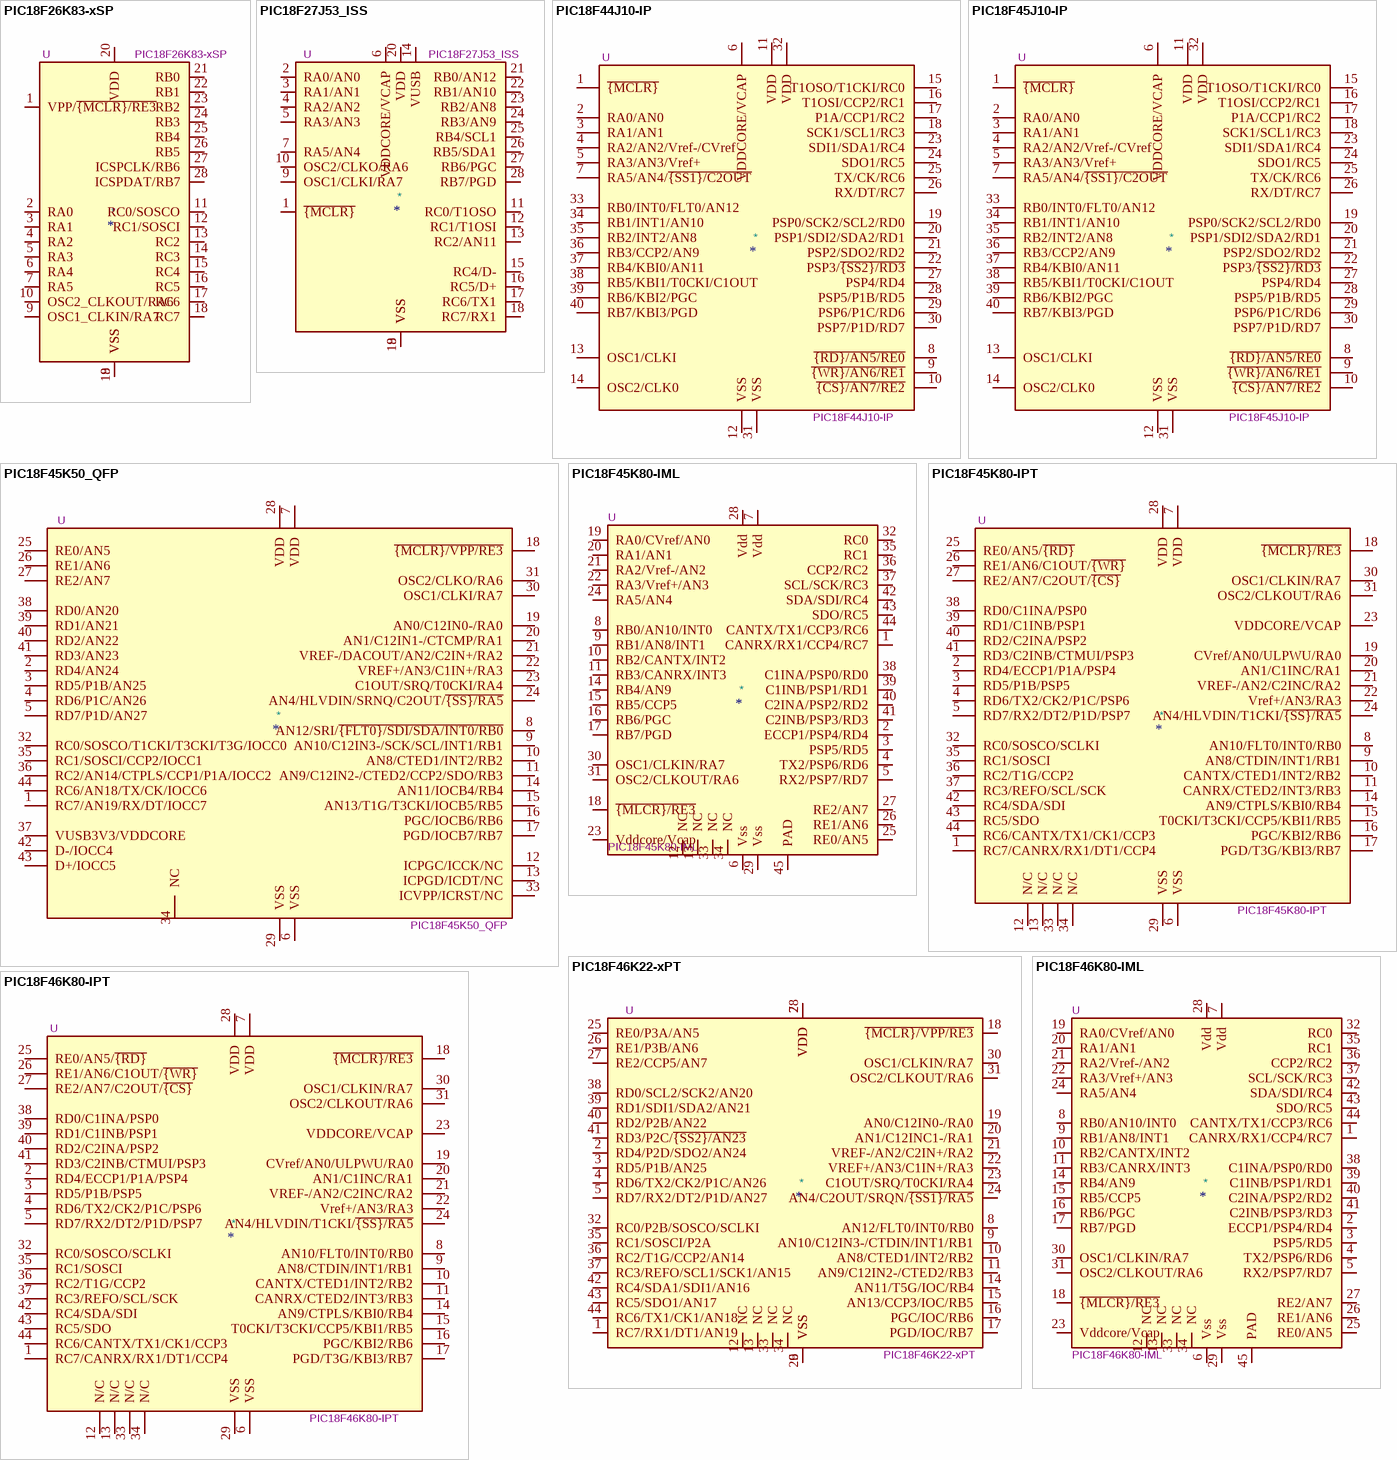
[diagram p2: symbols PIC18F26K83-xSP to PIC18F46K80-IPT]

## PIC18F26K83-xSP
designator *  value PIC18F26K83-xSP  Reference: U
64K Flash, 4K RAM, 1K EEPROM, 2.3-5.5V, PIC18, low-power microcontroller with CAN, DIP-28; ki_keywords: microcontroller Microchip DMA WWDT DIA DCI XLP CLC CWG CCP NCO DSM CRC UART LIN DMX DALI SPI CAN I2C PPS SMT ADC2 CVD DAC; ki_fp_filters: DIP*W7.62mm*; Footprint: Package_DIP:DIP-28_W7.62mm; Datasheet: http://ww1.microchip.com/downloads/en/DeviceDoc/40001943A.pdf; Description_: 64K Flash, 4K RAM, 1K EEPROM, 2.3-5.5V, PIC18, low-power microcontroller with CAN, DIP-28
pins: 1 VPP/~{{MCLR}/RE3}, 2 RA0, 3 RA1, 4 RA2, 5 RA3, 6 RA4, 7 RA5, 8 VSS, 9 OSC1_CLKIN/RA7, 10 OSC2_CLKOUT/RA6, 11 RC0/SOSCO, 12 RC1/SOSCI, 13 RC2, 14 RC3, 15 RC4, 16 RC5, 17 RC6, 18 RC7, 19 VSS, 20 VDD, 21 RB0, 22 RB1, 23 RB2, 24 RB3, 25 RB4, 26 RB5, 27 ICSPCLK/RB6, 28 ICSPDAT/RB7

## PIC18F27J53_ISS
designator *  value PIC18F27J53_ISS  Reference: U
128K Flash, 3.8K RAM, PIC18 Microcontroller ADC PWM I2C USART USB RTCC, SSOP-28; ki_keywords: microcontroller PIC18 flash ECAN XLP nanoWatt; ki_fp_filters: SSOP*5.3x10.2mm*P0.65mm*; Footprint: Package_SO:SSOP-28_5.3x10.2mm_P0.65mm; Datasheet: http://ww1.microchip.com/downloads/en/DeviceDoc/30009964C.pdf; Description_: 128K Flash, 3.8K RAM, PIC18 Microcontroller ADC PWM I2C USART USB RTCC, SSOP-28
pins: 1 ~{{MCLR}}, 2 RA0/AN0, 3 RA1/AN1, 4 RA2/AN2, 5 RA3/AN3, 6 VDDCORE/VCAP, 7 RA5/AN4, 8 VSS, 9 OSC1/CLKI/RA7, 10 OSC2/CLKO/RA6, 11 RC0/T1OSO, 12 RC1/T1OSI, 13 RC2/AN11, 14 VUSB, 15 RC4/D-, 16 RC5/D+, 17 RC6/TX1, 18 RC7/RX1, 19 VSS, 20 VDD, 21 RB0/AN12, 22 RB1/AN10, 23 RB2/AN8, 24 RB3/AN9, 25 RB4/SCL1, 26 RB5/SDA1, 27 RB6/PGC, 28 RB7/PGD

## PIC18F44J10-IP
designator *  value PIC18F44J10-IP  Reference: U
16K Flash, 1K SRAM, ADC, DIP40; ki_keywords: Flash-Based 8-Bit Microcontroller; ki_fp_filters: DIP*W15.24mm* PDIP*W15.24mm*; Footprint: Package_DIP:DIP-40_W15.24mm; Datasheet: http://ww1.microchip.com/downloads/en/DeviceDoc/39682E.pdf; Description_: 16K Flash, 1K SRAM, ADC, DIP40
pins: 1 ~{{MCLR}}, 2 RA0/AN0, 3 RA1/AN1, 4 RA2/AN2/Vref-/CVref, 5 RA3/AN3/Vref+, 6 VDDCORE/VCAP, 7 RA5/AN4/~{{SS1}/C2OUT}, 8 ~{{RD}/AN5/RE0}, 9 ~{{WR}/AN6/RE1}, 10 ~{{CS}/AN7/RE2}, 11 VDD, 12 VSS, 13 OSC1/CLKI, 14 OSC2/CLK0, 15 T1OSO/T1CKI/RC0, 16 T1OSI/CCP2/RC1, 17 P1A/CCP1/RC2, 18 SCK1/SCL1/RC3, 19 PSP0/SCK2/SCL2/RD0, 20 PSP1/SDI2/SDA2/RD1, 21 PSP2/SDO2/RD2, 22 PSP3/~{{SS2}/RD3}, 23 SDI1/SDA1/RC4, 24 SDO1/RC5, 25 TX/CK/RC6, 26 RX/DT/RC7, 27 PSP4/RD4, 28 PSP5/P1B/RD5, 29 PSP6/P1C/RD6, 30 PSP7/P1D/RD7, 31 VSS, 32 VDD, 33 RB0/INT0/FLT0/AN12, 34 RB1/INT1/AN10, 35 RB2/INT2/AN8, 36 RB3/CCP2/AN9, 37 RB4/KBI0/AN11, 38 RB5/KBI1/T0CKI/C1OUT, 39 RB6/KBI2/PGC, 40 RB7/KBI3/PGD

## PIC18F45J10-IP
designator *  value PIC18F45J10-IP  Reference: U
32K Flash, 1K SRAM, ADC, DIP40; ki_keywords: Flash-Based 8-Bit Microcontroller; ki_fp_filters: DIP*W15.24mm* PDIP*W15.24mm*; Footprint: Package_DIP:DIP-40_W15.24mm; Datasheet: http://ww1.microchip.com/downloads/en/DeviceDoc/39682E.pdf; Description_: 32K Flash, 1K SRAM, ADC, DIP40
pins: 1 ~{{MCLR}}, 2 RA0/AN0, 3 RA1/AN1, 4 RA2/AN2/Vref-/CVref, 5 RA3/AN3/Vref+, 6 VDDCORE/VCAP, 7 RA5/AN4/~{{SS1}/C2OUT}, 8 ~{{RD}/AN5/RE0}, 9 ~{{WR}/AN6/RE1}, 10 ~{{CS}/AN7/RE2}, 11 VDD, 12 VSS, 13 OSC1/CLKI, 14 OSC2/CLK0, 15 T1OSO/T1CKI/RC0, 16 T1OSI/CCP2/RC1, 17 P1A/CCP1/RC2, 18 SCK1/SCL1/RC3, 19 PSP0/SCK2/SCL2/RD0, 20 PSP1/SDI2/SDA2/RD1, 21 PSP2/SDO2/RD2, 22 PSP3/~{{SS2}/RD3}, 23 SDI1/SDA1/RC4, 24 SDO1/RC5, 25 TX/CK/RC6, 26 RX/DT/RC7, 27 PSP4/RD4, 28 PSP5/P1B/RD5, 29 PSP6/P1C/RD6, 30 PSP7/P1D/RD7, 31 VSS, 32 VDD, 33 RB0/INT0/FLT0/AN12, 34 RB1/INT1/AN10, 35 RB2/INT2/AN8, 36 RB3/CCP2/AN9, 37 RB4/KBI0/AN11, 38 RB5/KBI1/T0CKI/C1OUT, 39 RB6/KBI2/PGC, 40 RB7/KBI3/PGD

## PIC18F45K50_QFP
designator *  value PIC18F45K50_QFP  Reference: U
32K Flash, 2K RAM, 256B EEPROM, Microchip PIC18F series enhanced flash microcontroller with USB in TQFP-44 package; ki_keywords: microcontroller Flash EEPROM SPI I2C USB UART USART ADC TQFP; ki_fp_filters: TQFP*10x10mm*P0.8mm*; Footprint: Package_QFP:TQFP-44_10x10mm_P0.8mm; Datasheet: http://ww1.microchip.com/downloads/en/DeviceDoc/30000684B.pdf; Description_: 32K Flash, 2K RAM, 256B EEPROM, Microchip PIC18F series enhanced flash microcontroller with USB in TQFP-44 package
pins: 1 RC7/AN19/RX/DT/IOCC7, 2 RD4/AN24, 3 RD5/P1B/AN25, 4 RD6/P1C/AN26, 5 RD7/P1D/AN27, 6 VSS, 7 VDD, 8 AN12/SRI/~{{FLT0}/SDI/SDA/INT0/RB0}, 9 AN10/C12IN3-/SCK/SCL/INT1/RB1, 10 AN8/CTED1/INT2/RB2, 11 AN9/C12IN2-/CTED2/CCP2/SDO/RB3, 12 ICPGC/ICCK/NC, 13 ICPGD/ICDT/NC, 14 AN11/IOCB4/RB4, 15 AN13/T1G/T3CKI/IOCB5/RB5, 16 PGC/IOCB6/RB6, 17 PGD/IOCB7/RB7, 18 ~{{MCLR}/VPP/RE3}, 19 AN0/C12IN0-/RA0, 20 AN1/C12IN1-/CTCMP/RA1, 21 VREF-/DACOUT/AN2/C2IN+/RA2, 22 VREF+/AN3/C1IN+/RA3, 23 C1OUT/SRQ/T0CKI/RA4, 24 AN4/HLVDIN/SRNQ/C2OUT/~{{SS}/RA5}, 25 RE0/AN5, 26 RE1/AN6, 27 RE2/AN7, 28 VDD, 29 VSS, 30 OSC1/CLKI/RA7, 31 OSC2/CLKO/RA6, 32 RC0/SOSCO/T1CKI/T3CKI/T3G/IOCC0, 33 ICVPP/ICRST/NC, 34 NC, 35 RC1/SOSCI/CCP2/IOCC1, 36 RC2/AN14/CTPLS/CCP1/P1A/IOCC2, 37 VUSB3V3/VDDCORE, 38 RD0/AN20, 39 RD1/AN21, 40 RD2/AN22, 41 RD3/AN23, 42 D-/IOCC4, 43 D+/IOCC5, 44 RC6/AN18/TX/CK/IOCC6

## PIC18F45K80-IML
designator *  value PIC18F45K80-IML  Reference: U
32K Flash, 3.5K RAM, 1K EEPROM, Microchip PIC18F series enhanced flash microcontroller with ECAN and nanoWatt XLP Technology in QFN-44 package; ki_keywords: microcontroller Flash EEPROM SPI I2C CAN UART USART ADC; ki_fp_filters: QFN*1EP*8x8mm*P0.65mm*; Footprint: Package_DFN_QFN:QFN-44-1EP_8x8mm_P0.65mm_EP6.45x6.45mm; Datasheet: http://ww1.microchip.com/downloads/en/DeviceDoc/PIC18F66K80%20FAMILY%20Enhanced%20Flash%20MCU%20with%20ECAN%20XLP%20Technology%2030009977G.pdf; Description_: 32K Flash, 3.5K RAM, 1K EEPROM, Microchip PIC18F series enhanced flash microcontroller with ECAN and nanoWatt XLP Technology in QFN-44 package
pins: 1 CANRX/RX1/CCP4/RC7, 2 ECCP1/PSP4/RD4, 3 PSP5/RD5, 4 TX2/PSP6/RD6, 5 RX2/PSP7/RD7, 6 Vss, 7 Vdd, 8 RB0/AN10/INT0, 9 RB1/AN8/INT1, 10 RB2/CANTX/INT2, 11 RB3/CANRX/INT3, 12 NC, 13 NC, 14 RB4/AN9, 15 RB5/CCP5, 16 RB6/PGC, 17 RB7/PGD, 18 ~{{MLCR}/RE3}, 19 RA0/CVref/AN0, 20 RA1/AN1, 21 RA2/Vref-/AN2, 22 RA3/Vref+/AN3, 23 Vddcore/Vcap, 24 RA5/AN4, 25 RE0/AN5, 26 RE1/AN6, 27 RE2/AN7, 28 Vdd, 29 Vss, 30 OSC1/CLKIN/RA7, 31 OSC2/CLKOUT/RA6, 32 RC0, 33 NC, 34 NC, 35 RC1, 36 CCP2/RC2, 37 SCL/SCK/RC3, 38 C1INA/PSP0/RD0, 39 C1INB/PSP1/RD1, 40 C2INA/PSP2/RD2, 41 C2INB/PSP3/RD3, 42 SDA/SDI/RC4, 43 SDO/RC5, 44 CANTX/TX1/CCP3/RC6, 45 PAD

## PIC18F45K80-IPT
designator *  value PIC18F45K80-IPT  Reference: U
32K Flash, 3.5K RAM, 1K EEPROM, Microchip PIC18F series enhanced flash microcontroller with ECAN and nanoWatt XLP Technology in TQFP-44 package; ki_keywords: microcontroller Flash EEPROM SPI I2C CAN UART USART ADC TQFP; ki_fp_filters: TQFP*10x10mm*P0.8mm*; Footprint: Package_QFP:TQFP-44_10x10mm_P0.8mm; Datasheet: http://ww1.microchip.com/downloads/en/DeviceDoc/39977f.pdf; Description_: 32K Flash, 3.5K RAM, 1K EEPROM, Microchip PIC18F series enhanced flash microcontroller with ECAN and nanoWatt XLP Technology in TQFP-44 package
pins: 1 RC7/CANRX/RX1/DT1/CCP4, 2 RD4/ECCP1/P1A/PSP4, 3 RD5/P1B/PSP5, 4 RD6/TX2/CK2/P1C/PSP6, 5 RD7/RX2/DT2/P1D/PSP7, 6 VSS, 7 VDD, 8 AN10/FLT0/INT0/RB0, 9 AN8/CTDIN/INT1/RB1, 10 CANTX/CTED1/INT2/RB2, 11 CANRX/CTED2/INT3/RB3, 12 N/C, 13 N/C, 14 AN9/CTPLS/KBI0/RB4, 15 T0CKI/T3CKI/CCP5/KBI1/RB5, 16 PGC/KBI2/RB6, 17 PGD/T3G/KBI3/RB7, 18 ~{{MCLR}/RE3}, 19 CVref/AN0/ULPWU/RA0, 20 AN1/C1INC/RA1, 21 VREF-/AN2/C2INC/RA2, 22 Vref+/AN3/RA3, 23 VDDCORE/VCAP, 24 AN4/HLVDIN/T1CKI/~{{SS}/RA5}, 25 RE0/AN5/~{{RD}}, 26 RE1/AN6/C1OUT/~{{WR}}, 27 RE2/AN7/C2OUT/~{{CS}}, 28 VDD, 29 VSS, 30 OSC1/CLKIN/RA7, 31 OSC2/CLKOUT/RA6, 32 RC0/SOSCO/SCLKI, 33 N/C, 34 N/C, 35 RC1/SOSCI, 36 RC2/T1G/CCP2, 37 RC3/REFO/SCL/SCK, 38 RD0/C1INA/PSP0, 39 RD1/C1INB/PSP1, 40 RD2/C2INA/PSP2, 41 RD3/C2INB/CTMUI/PSP3, 42 RC4/SDA/SDI, 43 RC5/SDO, 44 RC6/CANTX/TX1/CK1/CCP3

## PIC18F46K22-xPT
designator *  value PIC18F46K22-xPT  Reference: U
64K Flash, 3.5K RAM, 1K EEPROM PIC18 Microcontroller ADC PWM SPI I2C USART in TQFP44 package; ki_keywords: microchip microcontroller PIC18 flash XLP nanoWatt; ki_fp_filters: TQFP*10x10mm*P0.8mm*; Footprint: Package_QFP:TQFP-44_10x10mm_P0.8mm; Datasheet: http://ww1.microchip.com/downloads/en/DeviceDoc/40001412G.pdf; Description_: 64K Flash, 3.5K RAM, 1K EEPROM PIC18 Microcontroller ADC PWM SPI I2C USART in TQFP44 package
pins: 1 RC7/RX1/DT1/AN19, 2 RD4/P2D/SDO2/AN24, 3 RD5/P1B/AN25, 4 RD6/TX2/CK2/P1C/AN26, 5 RD7/RX2/DT2/P1D/AN27, 6 VSS, 7 VDD, 8 AN12/FLT0/INT0/RB0, 9 AN10/C12IN3-/CTDIN/INT1/RB1, 10 AN8/CTED1/INT2/RB2, 11 AN9/C12IN2-/CTED2/RB3, 12 NC, 13 NC, 14 AN11/T5G/IOC/RB4, 15 AN13/CCP3/IOC/RB5, 16 PGC/IOC/RB6, 17 PGD/IOC/RB7, 18 ~{{MCLR}/VPP/RE3}, 19 AN0/C12IN0-/RA0, 20 AN1/C12INC1-/RA1, 21 VREF-/AN2/C2IN+/RA2, 22 VREF+/AN3/C1IN+/RA3, 23 C1OUT/SRQ/T0CKI/RA4, 24 AN4/C2OUT/SRQN/~{{SS1}/RA5}, 25 RE0/P3A/AN5, 26 RE1/P3B/AN6, 27 RE2/CCP5/AN7, 28 VDD, 29 VSS, 30 OSC1/CLKIN/RA7, 31 OSC2/CLKOUT/RA6, 32 RC0/P2B/SOSCO/SCLKI, 33 NC, 34 NC, 35 RC1/SOSCI/P2A, 36 RC2/T1G/CCP2/AN14, 37 RC3/REFO/SCL1/SCK1/AN15, 38 RD0/SCL2/SCK2/AN20, 39 RD1/SDI1/SDA2/AN21, 40 RD2/P2B/AN22, 41 RD3/P2C/~{{SS2}/AN23}, 42 RC4/SDA1/SDI1/AN16, 43 RC5/SDO1/AN17, 44 RC6/TX1/CK1/AN18

## PIC18F46K80-IML
designator *  value PIC18F46K80-IML  Reference: U
64K Flash, 3.5K RAM, 1K EEPROM PIC18 Microcontroller ADC PWM CAN SPI I2C USART in QFN44 package; ki_keywords: microcontroller PIC18 flash ECAN XLP nanoWatt; ki_fp_filters: QFN*1EP*8x8mm*P0.65mm*; Footprint: Package_DFN_QFN:QFN-44-1EP_8x8mm_P0.65mm_EP6.45x6.45mm; Datasheet: http://ww1.microchip.com/downloads/en/DeviceDoc/39977f.pdf; Description_: 64K Flash, 3.5K RAM, 1K EEPROM PIC18 Microcontroller ADC PWM CAN SPI I2C USART in QFN44 package
pins: 1 CANRX/RX1/CCP4/RC7, 2 ECCP1/PSP4/RD4, 3 PSP5/RD5, 4 TX2/PSP6/RD6, 5 RX2/PSP7/RD7, 6 Vss, 7 Vdd, 8 RB0/AN10/INT0, 9 RB1/AN8/INT1, 10 RB2/CANTX/INT2, 11 RB3/CANRX/INT3, 12 NC, 13 NC, 14 RB4/AN9, 15 RB5/CCP5, 16 RB6/PGC, 17 RB7/PGD, 18 ~{{MLCR}/RE3}, 19 RA0/CVref/AN0, 20 RA1/AN1, 21 RA2/Vref-/AN2, 22 RA3/Vref+/AN3, 23 Vddcore/Vcap, 24 RA5/AN4, 25 RE0/AN5, 26 RE1/AN6, 27 RE2/AN7, 28 Vdd, 29 Vss, 30 OSC1/CLKIN/RA7, 31 OSC2/CLKOUT/RA6, 32 RC0, 33 NC, 34 NC, 35 RC1, 36 CCP2/RC2, 37 SCL/SCK/RC3, 38 C1INA/PSP0/RD0, 39 C1INB/PSP1/RD1, 40 C2INA/PSP2/RD2, 41 C2INB/PSP3/RD3, 42 SDA/SDI/RC4, 43 SDO/RC5, 44 CANTX/TX1/CCP3/RC6, 45 PAD

## PIC18F46K80-IPT
designator *  value PIC18F46K80-IPT  Reference: U
64K Flash, 3.5K RAM, 1K EEPROM PIC18 Microcontroller ADC PWM CAN SPI I2C USART in TQFP44 package; ki_keywords: microchip microcontroller PIC18 flash ECAN XLP nanoWatt; ki_fp_filters: TQFP*10x10mm*P0.8mm*; Footprint: Package_QFP:TQFP-44_10x10mm_P0.8mm; Datasheet: http://ww1.microchip.com/downloads/en/DeviceDoc/39977f.pdf; Description_: 64K Flash, 3.5K RAM, 1K EEPROM PIC18 Microcontroller ADC PWM CAN SPI I2C USART in TQFP44 package
pins: 1 RC7/CANRX/RX1/DT1/CCP4, 2 RD4/ECCP1/P1A/PSP4, 3 RD5/P1B/PSP5, 4 RD6/TX2/CK2/P1C/PSP6, 5 RD7/RX2/DT2/P1D/PSP7, 6 VSS, 7 VDD, 8 AN10/FLT0/INT0/RB0, 9 AN8/CTDIN/INT1/RB1, 10 CANTX/CTED1/INT2/RB2, 11 CANRX/CTED2/INT3/RB3, 12 N/C, 13 N/C, 14 AN9/CTPLS/KBI0/RB4, 15 T0CKI/T3CKI/CCP5/KBI1/RB5, 16 PGC/KBI2/RB6, 17 PGD/T3G/KBI3/RB7, 18 ~{{MCLR}/RE3}, 19 CVref/AN0/ULPWU/RA0, 20 AN1/C1INC/RA1, 21 VREF-/AN2/C2INC/RA2, 22 Vref+/AN3/RA3, 23 VDDCORE/VCAP, 24 AN4/HLVDIN/T1CKI/~{{SS}/RA5}, 25 RE0/AN5/~{{RD}}, 26 RE1/AN6/C1OUT/~{{WR}}, 27 RE2/AN7/C2OUT/~{{CS}}, 28 VDD, 29 VSS, 30 OSC1/CLKIN/RA7, 31 OSC2/CLKOUT/RA6, 32 RC0/SOSCO/SCLKI, 33 N/C, 34 N/C, 35 RC1/SOSCI, 36 RC2/T1G/CCP2, 37 RC3/REFO/SCL/SCK, 38 RD0/C1INA/PSP0, 39 RD1/C1INB/PSP1, 40 RD2/C2INA/PSP2, 41 RD3/C2INB/CTMUI/PSP3, 42 RC4/SDA/SDI, 43 RC5/SDO, 44 RC6/CANTX/TX1/CK1/CCP3

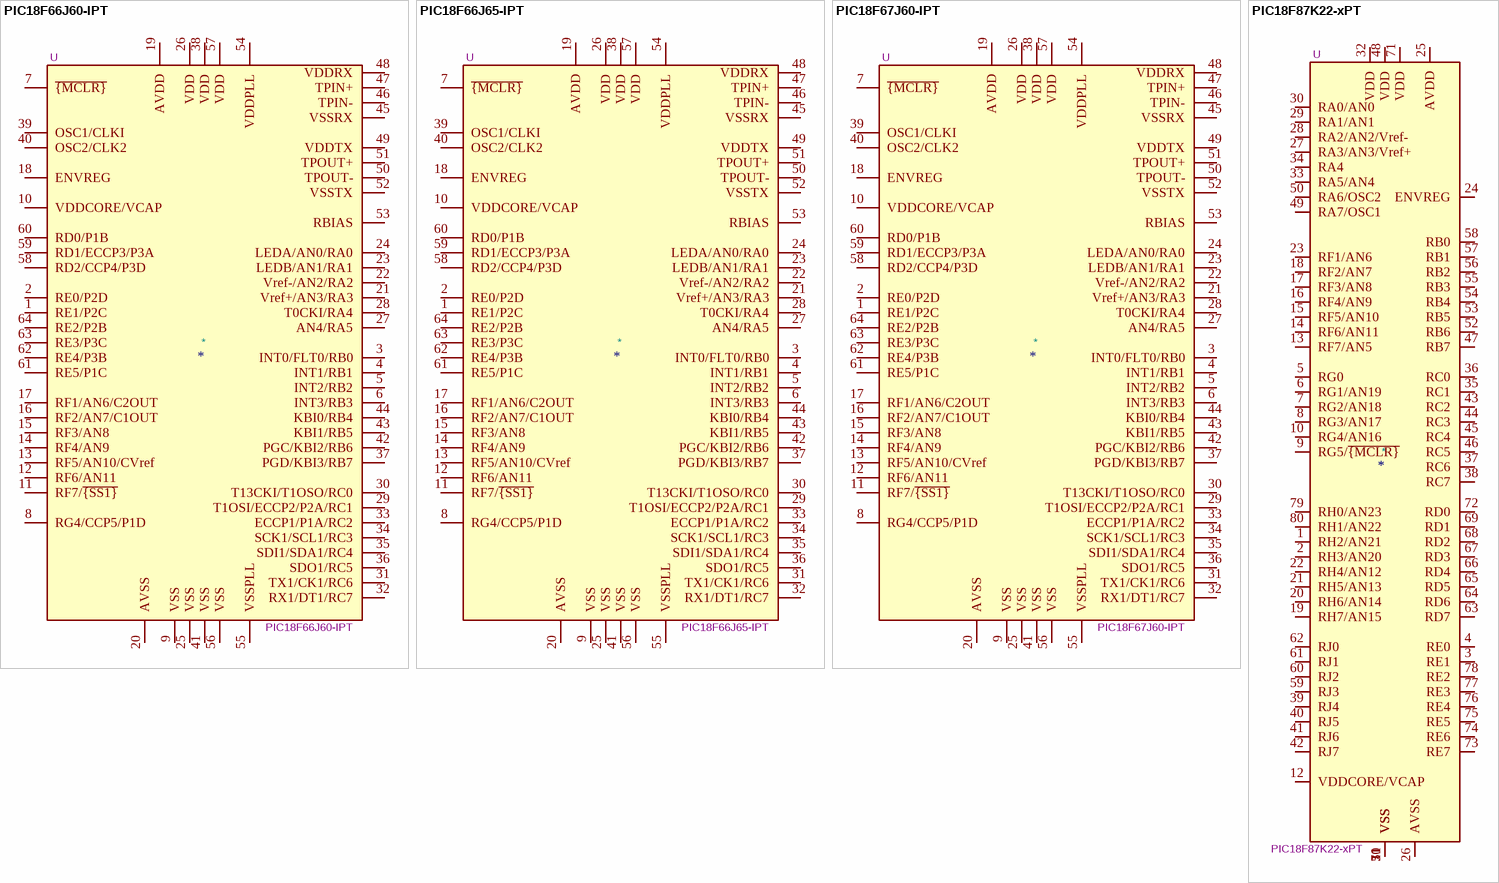
[diagram p3: symbols PIC18F66J60-IPT to PIC18F87K22-xPT]

## PIC18F66J60-IPT
designator *  value PIC18F66J60-IPT  Reference: U
64K Flash, 3.7K SRAM, Ethernet Controller with PHY, 8K Buffer, TQFP64; ki_keywords: Flash Based 8-Bit Microcontroller Ethernet Controller PHY; ki_fp_filters: TQFP*10x10mm*P0.5mm*; Footprint: Package_QFP:TQFP-64_10x10mm_P0.5mm; Datasheet: http://ww1.microchip.com/downloads/en/DeviceDoc/39762f.pdf; Description_: 64K Flash, 3.7K SRAM, Ethernet Controller with PHY, 8K Buffer, TQFP64
pins: 1 RE1/P2C, 2 RE0/P2D, 3 INT0/FLT0/RB0, 4 INT1/RB1, 5 INT2/RB2, 6 INT3/RB3, 7 ~{{MCLR}}, 8 RG4/CCP5/P1D, 9 VSS, 10 VDDCORE/VCAP, 11 RF7/~{{SS1}}, 12 RF6/AN11, 13 RF5/AN10/CVref, 14 RF4/AN9, 15 RF3/AN8, 16 RF2/AN7/C1OUT, 17 RF1/AN6/C2OUT, 18 ENVREG, 19 AVDD, 20 AVSS, 21 Vref+/AN3/RA3, 22 Vref-/AN2/RA2, 23 LEDB/AN1/RA1, 24 LEDA/AN0/RA0, 25 VSS, 26 VDD, 27 AN4/RA5, 28 T0CKI/RA4, 29 T1OSI/ECCP2/P2A/RC1, 30 T13CKI/T1OSO/RC0, 31 TX1/CK1/RC6, 32 RX1/DT1/RC7, 33 ECCP1/P1A/RC2, 34 SCK1/SCL1/RC3, 35 SDI1/SDA1/RC4, 36 SDO1/RC5, 37 PGD/KBI3/RB7, 38 VDD, 39 OSC1/CLKI, 40 OSC2/CLK2, 41 VSS, 42 PGC/KBI2/RB6, 43 KBI1/RB5, 44 KBI0/RB4, 45 VSSRX, 46 TPIN-, 47 TPIN+, 48 VDDRX, 49 VDDTX, 50 TPOUT-, 51 TPOUT+, 52 VSSTX, 53 RBIAS, 54 VDDPLL, 55 VSSPLL, 56 VSS, 57 VDD, 58 RD2/CCP4/P3D, 59 RD1/ECCP3/P3A, 60 RD0/P1B, 61 RE5/P1C, 62 RE4/P3B, 63 RE3/P3C, 64 RE2/P2B

## PIC18F66J65-IPT
designator *  value PIC18F66J65-IPT  Reference: U
96K Flash, 3.7K SRAM, Ethernet Controller with PHY, 8K Buffer, TQFP64; ki_keywords: Flash Based 8-Bit Microcontroller Ethernet Controller PHY; ki_fp_filters: TQFP*10x10mm*P0.5mm*; Footprint: Package_QFP:TQFP-64_10x10mm_P0.5mm; Datasheet: http://ww1.microchip.com/downloads/en/DeviceDoc/39762f.pdf; Description_: 96K Flash, 3.7K SRAM, Ethernet Controller with PHY, 8K Buffer, TQFP64
pins: 1 RE1/P2C, 2 RE0/P2D, 3 INT0/FLT0/RB0, 4 INT1/RB1, 5 INT2/RB2, 6 INT3/RB3, 7 ~{{MCLR}}, 8 RG4/CCP5/P1D, 9 VSS, 10 VDDCORE/VCAP, 11 RF7/~{{SS1}}, 12 RF6/AN11, 13 RF5/AN10/CVref, 14 RF4/AN9, 15 RF3/AN8, 16 RF2/AN7/C1OUT, 17 RF1/AN6/C2OUT, 18 ENVREG, 19 AVDD, 20 AVSS, 21 Vref+/AN3/RA3, 22 Vref-/AN2/RA2, 23 LEDB/AN1/RA1, 24 LEDA/AN0/RA0, 25 VSS, 26 VDD, 27 AN4/RA5, 28 T0CKI/RA4, 29 T1OSI/ECCP2/P2A/RC1, 30 T13CKI/T1OSO/RC0, 31 TX1/CK1/RC6, 32 RX1/DT1/RC7, 33 ECCP1/P1A/RC2, 34 SCK1/SCL1/RC3, 35 SDI1/SDA1/RC4, 36 SDO1/RC5, 37 PGD/KBI3/RB7, 38 VDD, 39 OSC1/CLKI, 40 OSC2/CLK2, 41 VSS, 42 PGC/KBI2/RB6, 43 KBI1/RB5, 44 KBI0/RB4, 45 VSSRX, 46 TPIN-, 47 TPIN+, 48 VDDRX, 49 VDDTX, 50 TPOUT-, 51 TPOUT+, 52 VSSTX, 53 RBIAS, 54 VDDPLL, 55 VSSPLL, 56 VSS, 57 VDD, 58 RD2/CCP4/P3D, 59 RD1/ECCP3/P3A, 60 RD0/P1B, 61 RE5/P1C, 62 RE4/P3B, 63 RE3/P3C, 64 RE2/P2B

## PIC18F67J60-IPT
designator *  value PIC18F67J60-IPT  Reference: U
128K Flash, 3.7K SRAM, Ethernet Controller with PHY, 8K Buffer, TQFP64; ki_keywords: Flash Based 8-Bit Microcontroller Ethernet Controller PHY; ki_fp_filters: TQFP*10x10mm*P0.5mm*; Footprint: Package_QFP:TQFP-64_10x10mm_P0.5mm; Datasheet: http://ww1.microchip.com/downloads/en/DeviceDoc/39762f.pdf; Description_: 128K Flash, 3.7K SRAM, Ethernet Controller with PHY, 8K Buffer, TQFP64
pins: 1 RE1/P2C, 2 RE0/P2D, 3 INT0/FLT0/RB0, 4 INT1/RB1, 5 INT2/RB2, 6 INT3/RB3, 7 ~{{MCLR}}, 8 RG4/CCP5/P1D, 9 VSS, 10 VDDCORE/VCAP, 11 RF7/~{{SS1}}, 12 RF6/AN11, 13 RF5/AN10/CVref, 14 RF4/AN9, 15 RF3/AN8, 16 RF2/AN7/C1OUT, 17 RF1/AN6/C2OUT, 18 ENVREG, 19 AVDD, 20 AVSS, 21 Vref+/AN3/RA3, 22 Vref-/AN2/RA2, 23 LEDB/AN1/RA1, 24 LEDA/AN0/RA0, 25 VSS, 26 VDD, 27 AN4/RA5, 28 T0CKI/RA4, 29 T1OSI/ECCP2/P2A/RC1, 30 T13CKI/T1OSO/RC0, 31 TX1/CK1/RC6, 32 RX1/DT1/RC7, 33 ECCP1/P1A/RC2, 34 SCK1/SCL1/RC3, 35 SDI1/SDA1/RC4, 36 SDO1/RC5, 37 PGD/KBI3/RB7, 38 VDD, 39 OSC1/CLKI, 40 OSC2/CLK2, 41 VSS, 42 PGC/KBI2/RB6, 43 KBI1/RB5, 44 KBI0/RB4, 45 VSSRX, 46 TPIN-, 47 TPIN+, 48 VDDRX, 49 VDDTX, 50 TPOUT-, 51 TPOUT+, 52 VSSTX, 53 RBIAS, 54 VDDPLL, 55 VSSPLL, 56 VSS, 57 VDD, 58 RD2/CCP4/P3D, 59 RD1/ECCP3/P3A, 60 RD0/P1B, 61 RE5/P1C, 62 RE4/P3B, 63 RE3/P3C, 64 RE2/P2B

## PIC18F87K22-xPT
designator *  value PIC18F87K22-xPT  Reference: U
PIC18F nanoWatt XLP Technology MCU, 64MHz, 128KB Flash, 4KB RAM, 1KB EEPROM, 1.8-5.5V, 69 GPIO, TQFP-80; ki_keywords: Flash Based 8-Bit Microcontroller; ki_fp_filters: TQFP*12x12mm*P0.5mm*; Footprint: Package_QFP:TQFP-80_12x12mm_P0.5mm; Datasheet: http://ww1.microchip.com/downloads/en/DeviceDoc/39960d.pdf; Description_: PIC18F nanoWatt XLP Technology MCU, 64MHz, 128KB Flash, 4KB RAM, 1KB EEPROM, 1.8-5.5V, 69 GPIO, TQFP-80
pins: 1 RH2/AN21, 2 RH3/AN20, 3 RE1, 4 RE0, 5 RG0, 6 RG1/AN19, 7 RG2/AN18, 8 RG3/AN17, 9 RG5/~{{MCLR}}, 10 RG4/AN16, 11 VSS, 12 VDDCORE/VCAP, 13 RF7/AN5, 14 RF6/AN11, 15 RF5/AN10, 16 RF4/AN9, 17 RF3/AN8, 18 RF2/AN7, 19 RH7/AN15, 20 RH6/AN14, 21 RH5/AN13, 22 RH4/AN12, 23 RF1/AN6, 24 ENVREG, 25 AVDD, 26 AVSS, 27 RA3/AN3/Vref+, 28 RA2/AN2/Vref-, 29 RA1/AN1, 30 RA0/AN0, 31 VSS, 32 VDD, 33 RA5/AN4, 34 RA4, 35 RC1, 36 RC0, 37 RC6, 38 RC7, 39 RJ4, 40 RJ5, 41 RJ6, 42 RJ7, 43 RC2, 44 RC3, 45 RC4, 46 RC5, 47 RB7, 48 VDD, 49 RA7/OSC1, 50 RA6/OSC2, 51 VSS, 52 RB6, 53 RB5, 54 RB4, 55 RB3, 56 RB2, 57 RB1, 58 RB0, 59 RJ3, 60 RJ2, 61 RJ1, 62 RJ0, 63 RD7, 64 RD6, 65 RD5, 66 RD4, 67 RD3, 68 RD2, 69 RD1, 70 VSS, 71 VDD, 72 RD0, 73 RE7, 74 RE6, 75 RE5, 76 RE4, 77 RE3, 78 RE2, 79 RH0/AN23, 80 RH1/AN22

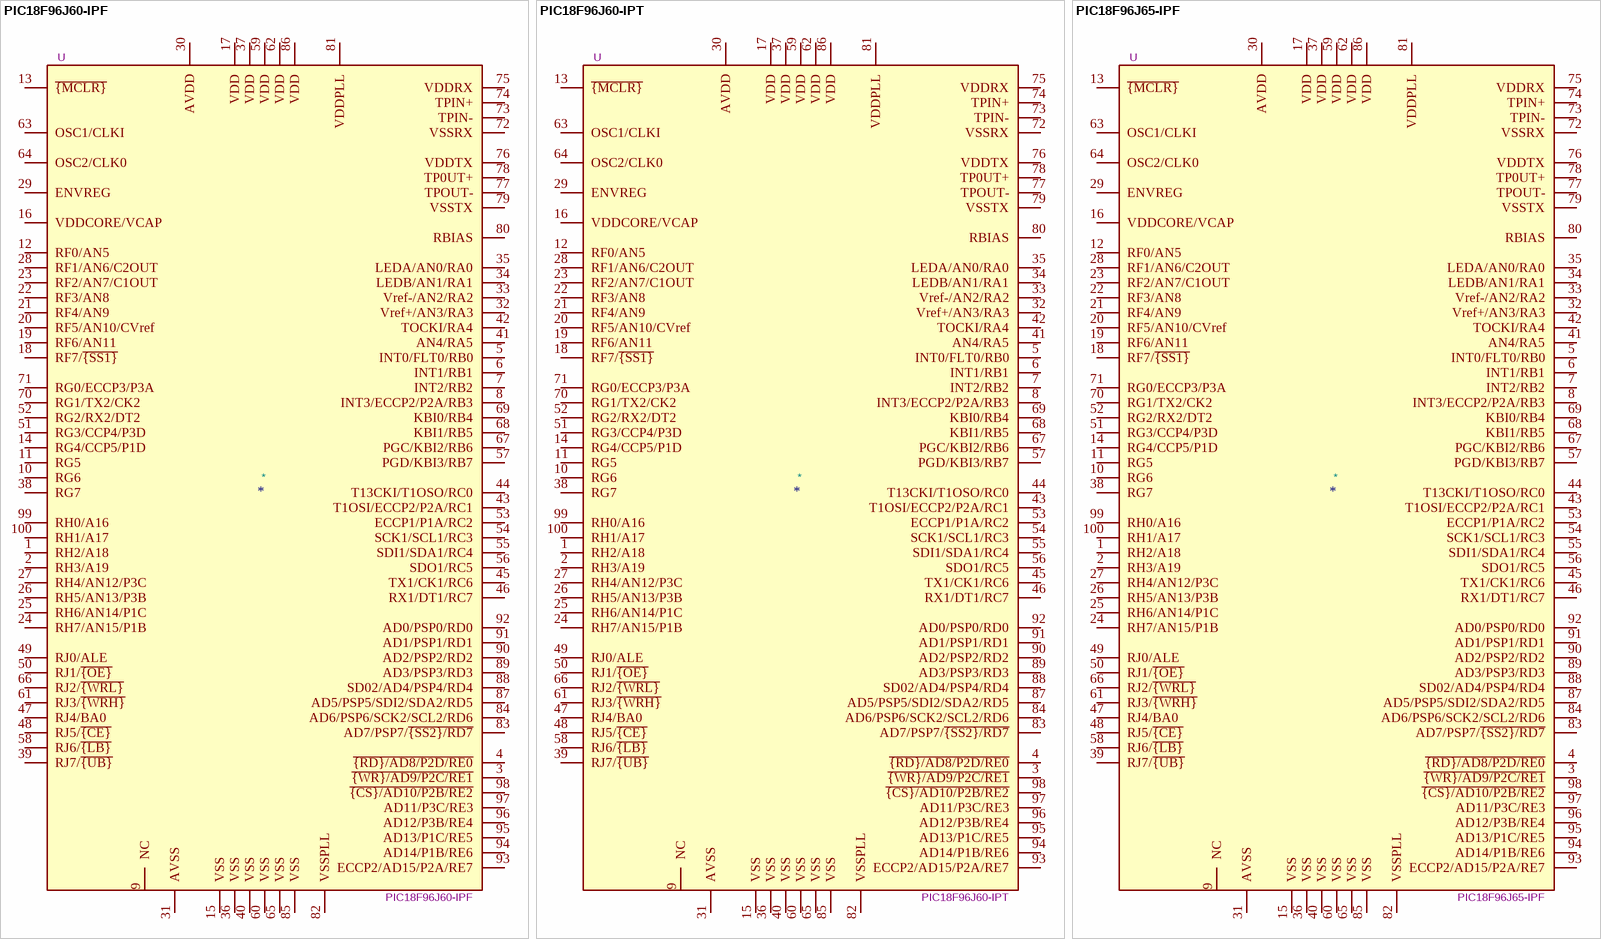
[diagram p4: symbols PIC18F96J60-IPF to PIC18F96J65-IPF]

## PIC18F96J60-IPF
designator *  value PIC18F96J60-IPF  Reference: U
64K Flash, 3.7K SRAM, Ethernet Controller with PHY, 8K Buffer, TQFP100 (14x14mm); ki_keywords: Flash Based 8-Bit Microcontroller Ethernet Controller PHY; ki_fp_filters: TQFP*12x12mm*P0.4mm* TQFP*14x14mm*P0.5mm*; Footprint: Package_QFP:TQFP-100_12x12mm_P0.4mm; Datasheet: http://ww1.microchip.com/downloads/en/DeviceDoc/39762f.pdf; Description_: 64K Flash, 3.7K SRAM, Ethernet Controller with PHY, 8K Buffer, TQFP100 (14x14mm)
pins: 1 RH2/A18, 2 RH3/A19, 3 ~{{WR}/AD9/P2C/RE1}, 4 ~{{RD}/AD8/P2D/RE0}, 5 INT0/FLT0/RB0, 6 INT1/RB1, 7 INT2/RB2, 8 INT3/ECCP2/P2A/RB3, 9 NC, 10 RG6, 11 RG5, 12 RF0/AN5, 13 ~{{MCLR}}, 14 RG4/CCP5/P1D, 15 VSS, 16 VDDCORE/VCAP, 17 VDD, 18 RF7/~{{SS1}}, 19 RF6/AN11, 20 RF5/AN10/CVref, 21 RF4/AN9, 22 RF3/AN8, 23 RF2/AN7/C1OUT, 24 RH7/AN15/P1B, 25 RH6/AN14/P1C, 26 RH5/AN13/P3B, 27 RH4/AN12/P3C, 28 RF1/AN6/C2OUT, 29 ENVREG, 30 AVDD, 31 AVSS, 32 Vref+/AN3/RA3, 33 Vref-/AN2/RA2, 34 LEDB/AN1/RA1, 35 LEDA/AN0/RA0, 36 VSS, 37 VDD, 38 RG7, 39 RJ7/~{{UB}}, 40 VSS, 41 AN4/RA5, 42 TOCKI/RA4, 43 T1OSI/ECCP2/P2A/RC1, 44 T13CKI/T1OSO/RC0, 45 TX1/CK1/RC6, 46 RX1/DT1/RC7, 47 RJ4/BA0, 48 RJ5/~{{CE}}, 49 RJ0/ALE, 50 RJ1/~{{OE}}, 51 RG3/CCP4/P3D, 52 RG2/RX2/DT2, 53 ECCP1/P1A/RC2, 54 SCK1/SCL1/RC3, 55 SDI1/SDA1/RC4, 56 SDO1/RC5, 57 PGD/KBI3/RB7, 58 RJ6/~{{LB}}, 59 VDD, 60 VSS, 61 RJ3/~{{WRH}}, 62 VDD, 63 OSC1/CLKI, 64 OSC2/CLK0, 65 VSS, 66 RJ2/~{{WRL}}, 67 PGC/KBI2/RB6, 68 KBI1/RB5, 69 KBI0/RB4, 70 RG1/TX2/CK2, 71 RG0/ECCP3/P3A, 72 VSSRX, 73 TPIN-, 74 TPIN+, 75 VDDRX, 76 VDDTX, 77 TPOUT-, 78 TP0UT+, 79 VSSTX, 80 RBIAS, 81 VDDPLL, 82 VSSPLL, 83 AD7/PSP7/~{{SS2}/RD7}, 84 AD6/PSP6/SCK2/SCL2/RD6, 85 VSS, 86 VDD, 87 AD5/PSP5/SDI2/SDA2/RD5, 88 SD02/AD4/PSP4/RD4, 89 AD3/PSP3/RD3, 90 AD2/PSP2/RD2, 91 AD1/PSP1/RD1, 92 AD0/PSP0/RD0, 93 ECCP2/AD15/P2A/RE7, 94 AD14/P1B/RE6, 95 AD13/P1C/RE5, 96 AD12/P3B/RE4, 97 AD11/P3C/RE3, 98 ~{{CS}/AD10/P2B/RE2}, 99 RH0/A16, 100 RH1/A17

## PIC18F96J60-IPT
designator *  value PIC18F96J60-IPT  Reference: U
64K Flash, 3.7K SRAM, Ethernet Controller with PHY, 8K Buffer, TQFP100; ki_keywords: Flash Based 8-Bit Microcontroller Ethernet Controller PHY; ki_fp_filters: TQFP*12x12mm*P0.4mm* TQFP*14x14mm*P0.5mm*; Footprint: Package_QFP:TQFP-100_12x12mm_P0.4mm; Datasheet: http://ww1.microchip.com/downloads/en/DeviceDoc/39762f.pdf; Description_: 64K Flash, 3.7K SRAM, Ethernet Controller with PHY, 8K Buffer, TQFP100
pins: 1 RH2/A18, 2 RH3/A19, 3 ~{{WR}/AD9/P2C/RE1}, 4 ~{{RD}/AD8/P2D/RE0}, 5 INT0/FLT0/RB0, 6 INT1/RB1, 7 INT2/RB2, 8 INT3/ECCP2/P2A/RB3, 9 NC, 10 RG6, 11 RG5, 12 RF0/AN5, 13 ~{{MCLR}}, 14 RG4/CCP5/P1D, 15 VSS, 16 VDDCORE/VCAP, 17 VDD, 18 RF7/~{{SS1}}, 19 RF6/AN11, 20 RF5/AN10/CVref, 21 RF4/AN9, 22 RF3/AN8, 23 RF2/AN7/C1OUT, 24 RH7/AN15/P1B, 25 RH6/AN14/P1C, 26 RH5/AN13/P3B, 27 RH4/AN12/P3C, 28 RF1/AN6/C2OUT, 29 ENVREG, 30 AVDD, 31 AVSS, 32 Vref+/AN3/RA3, 33 Vref-/AN2/RA2, 34 LEDB/AN1/RA1, 35 LEDA/AN0/RA0, 36 VSS, 37 VDD, 38 RG7, 39 RJ7/~{{UB}}, 40 VSS, 41 AN4/RA5, 42 TOCKI/RA4, 43 T1OSI/ECCP2/P2A/RC1, 44 T13CKI/T1OSO/RC0, 45 TX1/CK1/RC6, 46 RX1/DT1/RC7, 47 RJ4/BA0, 48 RJ5/~{{CE}}, 49 RJ0/ALE, 50 RJ1/~{{OE}}, 51 RG3/CCP4/P3D, 52 RG2/RX2/DT2, 53 ECCP1/P1A/RC2, 54 SCK1/SCL1/RC3, 55 SDI1/SDA1/RC4, 56 SDO1/RC5, 57 PGD/KBI3/RB7, 58 RJ6/~{{LB}}, 59 VDD, 60 VSS, 61 RJ3/~{{WRH}}, 62 VDD, 63 OSC1/CLKI, 64 OSC2/CLK0, 65 VSS, 66 RJ2/~{{WRL}}, 67 PGC/KBI2/RB6, 68 KBI1/RB5, 69 KBI0/RB4, 70 RG1/TX2/CK2, 71 RG0/ECCP3/P3A, 72 VSSRX, 73 TPIN-, 74 TPIN+, 75 VDDRX, 76 VDDTX, 77 TPOUT-, 78 TP0UT+, 79 VSSTX, 80 RBIAS, 81 VDDPLL, 82 VSSPLL, 83 AD7/PSP7/~{{SS2}/RD7}, 84 AD6/PSP6/SCK2/SCL2/RD6, 85 VSS, 86 VDD, 87 AD5/PSP5/SDI2/SDA2/RD5, 88 SD02/AD4/PSP4/RD4, 89 AD3/PSP3/RD3, 90 AD2/PSP2/RD2, 91 AD1/PSP1/RD1, 92 AD0/PSP0/RD0, 93 ECCP2/AD15/P2A/RE7, 94 AD14/P1B/RE6, 95 AD13/P1C/RE5, 96 AD12/P3B/RE4, 97 AD11/P3C/RE3, 98 ~{{CS}/AD10/P2B/RE2}, 99 RH0/A16, 100 RH1/A17

## PIC18F96J65-IPF
designator *  value PIC18F96J65-IPF  Reference: U
96K Flash, 3.7K SRAM, Ethernet Controller with PHY, 8K Buffer, TQFP100 (14x14mm); ki_keywords: Flash Based 8-Bit Microcontroller Ethernet Controller PHY; ki_fp_filters: TQFP*12x12mm*P0.4mm* TQFP*14x14mm*P0.5mm*; Footprint: Package_QFP:TQFP-100_12x12mm_P0.4mm; Datasheet: http://ww1.microchip.com/downloads/en/DeviceDoc/39762f.pdf; Description_: 96K Flash, 3.7K SRAM, Ethernet Controller with PHY, 8K Buffer, TQFP100 (14x14mm)
pins: 1 RH2/A18, 2 RH3/A19, 3 ~{{WR}/AD9/P2C/RE1}, 4 ~{{RD}/AD8/P2D/RE0}, 5 INT0/FLT0/RB0, 6 INT1/RB1, 7 INT2/RB2, 8 INT3/ECCP2/P2A/RB3, 9 NC, 10 RG6, 11 RG5, 12 RF0/AN5, 13 ~{{MCLR}}, 14 RG4/CCP5/P1D, 15 VSS, 16 VDDCORE/VCAP, 17 VDD, 18 RF7/~{{SS1}}, 19 RF6/AN11, 20 RF5/AN10/CVref, 21 RF4/AN9, 22 RF3/AN8, 23 RF2/AN7/C1OUT, 24 RH7/AN15/P1B, 25 RH6/AN14/P1C, 26 RH5/AN13/P3B, 27 RH4/AN12/P3C, 28 RF1/AN6/C2OUT, 29 ENVREG, 30 AVDD, 31 AVSS, 32 Vref+/AN3/RA3, 33 Vref-/AN2/RA2, 34 LEDB/AN1/RA1, 35 LEDA/AN0/RA0, 36 VSS, 37 VDD, 38 RG7, 39 RJ7/~{{UB}}, 40 VSS, 41 AN4/RA5, 42 TOCKI/RA4, 43 T1OSI/ECCP2/P2A/RC1, 44 T13CKI/T1OSO/RC0, 45 TX1/CK1/RC6, 46 RX1/DT1/RC7, 47 RJ4/BA0, 48 RJ5/~{{CE}}, 49 RJ0/ALE, 50 RJ1/~{{OE}}, 51 RG3/CCP4/P3D, 52 RG2/RX2/DT2, 53 ECCP1/P1A/RC2, 54 SCK1/SCL1/RC3, 55 SDI1/SDA1/RC4, 56 SDO1/RC5, 57 PGD/KBI3/RB7, 58 RJ6/~{{LB}}, 59 VDD, 60 VSS, 61 RJ3/~{{WRH}}, 62 VDD, 63 OSC1/CLKI, 64 OSC2/CLK0, 65 VSS, 66 RJ2/~{{WRL}}, 67 PGC/KBI2/RB6, 68 KBI1/RB5, 69 KBI0/RB4, 70 RG1/TX2/CK2, 71 RG0/ECCP3/P3A, 72 VSSRX, 73 TPIN-, 74 TPIN+, 75 VDDRX, 76 VDDTX, 77 TPOUT-, 78 TP0UT+, 79 VSSTX, 80 RBIAS, 81 VDDPLL, 82 VSSPLL, 83 AD7/PSP7/~{{SS2}/RD7}, 84 AD6/PSP6/SCK2/SCL2/RD6, 85 VSS, 86 VDD, 87 AD5/PSP5/SDI2/SDA2/RD5, 88 SD02/AD4/PSP4/RD4, 89 AD3/PSP3/RD3, 90 AD2/PSP2/RD2, 91 AD1/PSP1/RD1, 92 AD0/PSP0/RD0, 93 ECCP2/AD15/P2A/RE7, 94 AD14/P1B/RE6, 95 AD13/P1C/RE5, 96 AD12/P3B/RE4, 97 AD11/P3C/RE3, 98 ~{{CS}/AD10/P2B/RE2}, 99 RH0/A16, 100 RH1/A17

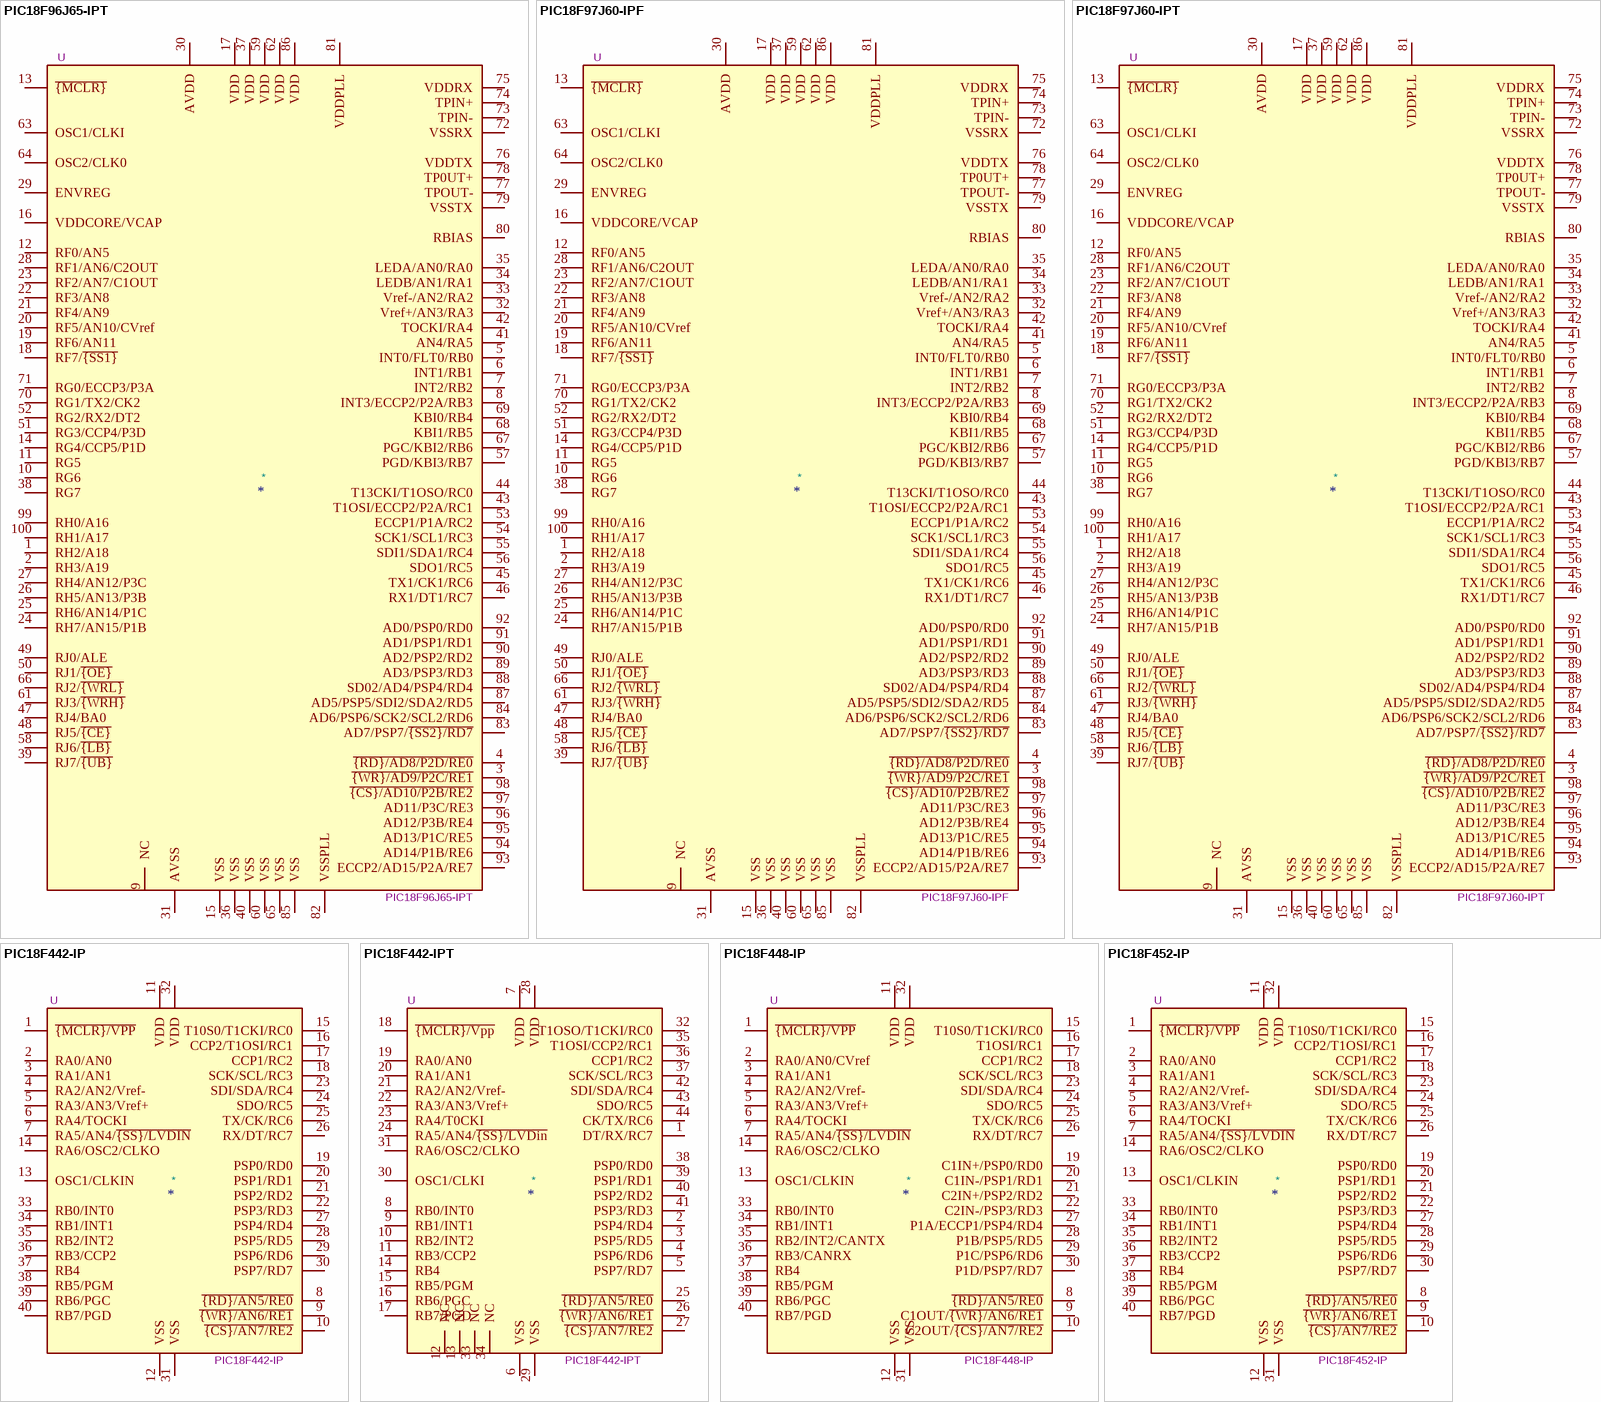
[diagram p5: symbols PIC18F96J65-IPT to PIC18F452-IP]